# Altium integrated library ST Microcontroller 8-Bit.IntLib: 1326 symbols (part 14 of 45)
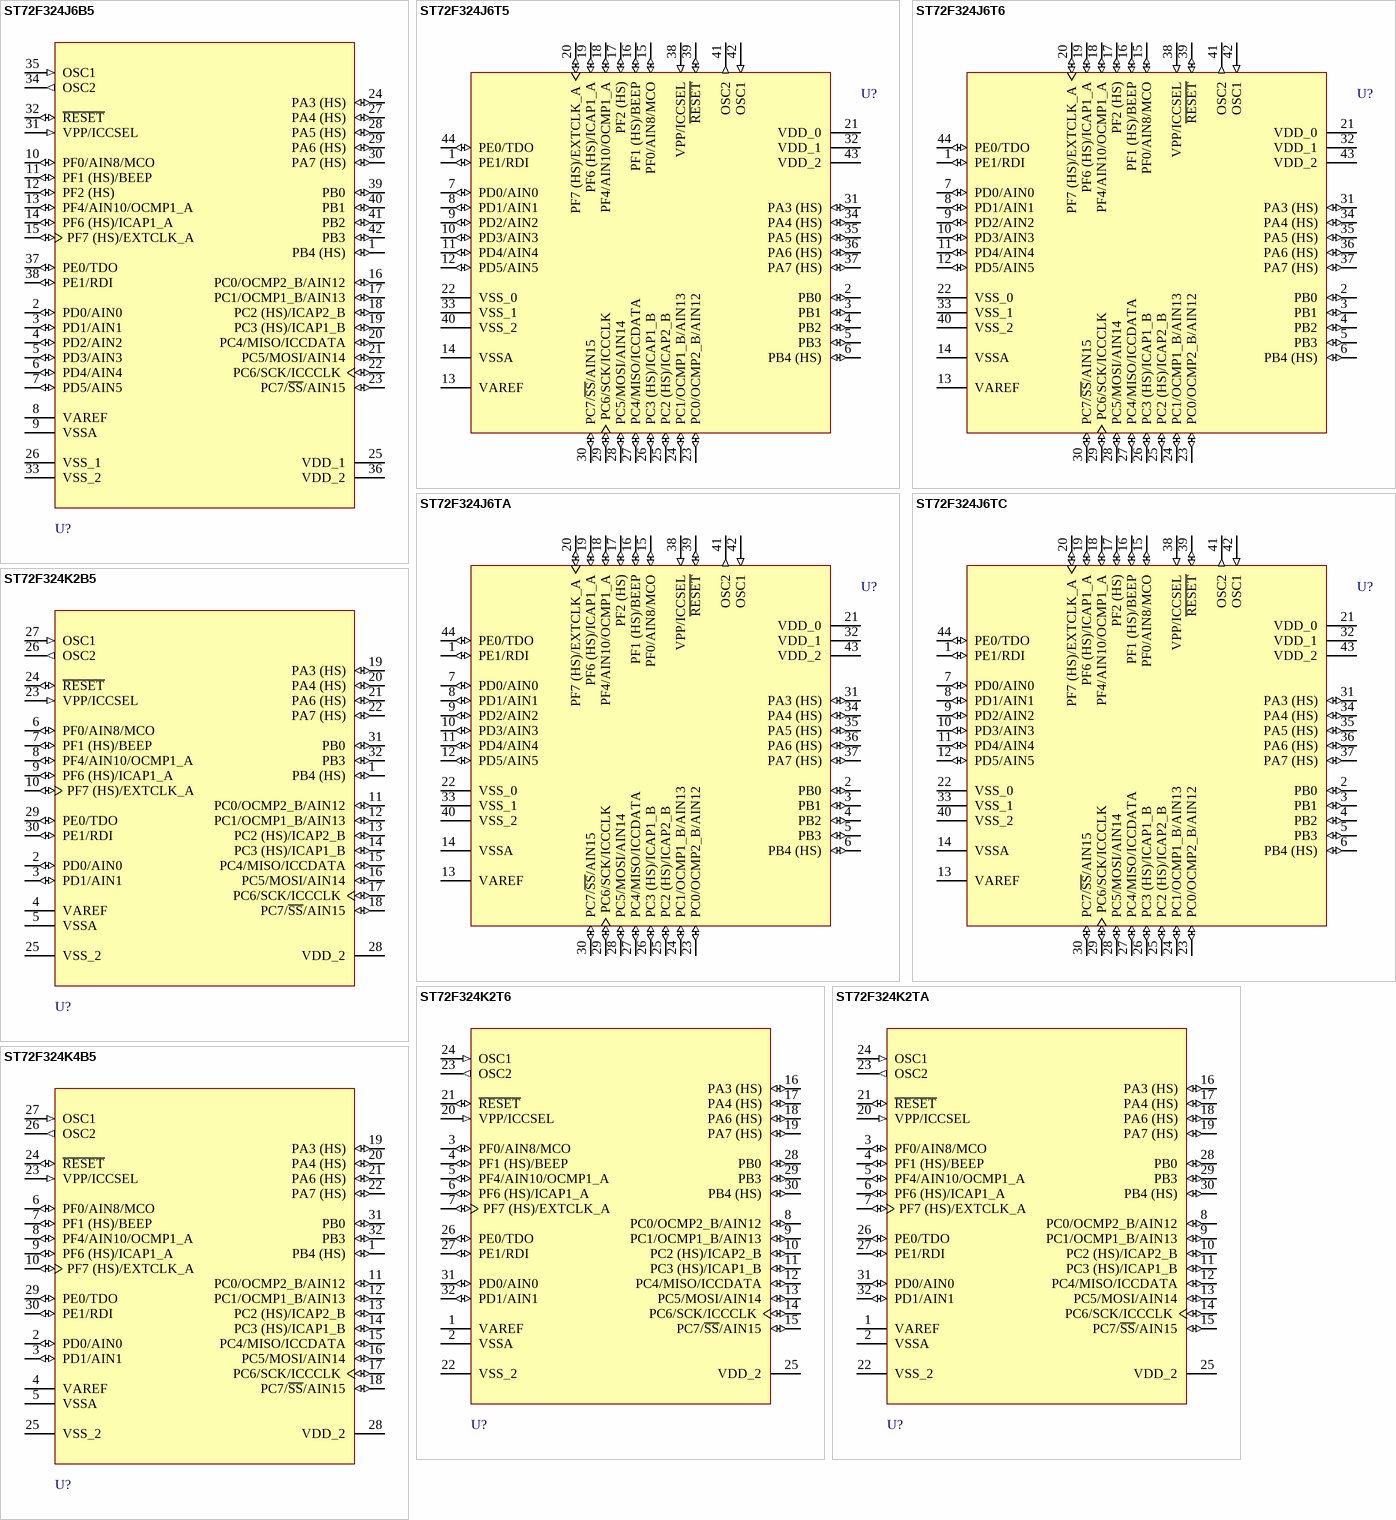
[diagram p180: symbols ST72F324J6B5 to ST72F324K4B5]

## ST72F324K2TA
designator U?
8-Bit 8k Flash MCU with Nested Interrupts, 384b RAM, 10-Bit ADC, Four Timers, SPI and SCI Interfaces, 32-Pin TQFP, Automotive; Note: Pins 3, 4, 16 and 28-30 are External Interrupt (EI) pins.; Published: 26-May-2004; LatestRevisionDate: 13-Apr-2006; LatestRevisionNote: IPC-7351 Footprint Added.; DatasheetVersion: rev1.9, Aug-2003; PackageVersion: Oct-1997; PackageReference: TQFP32; Publisher: Altium Limited; PackageDescription: 32-Pin Thin Quad Flat Pack 0.8 mm Pitch; ComponentLink1Description: Manufacturer Link; ComponentLink1URL: http://www.st.com/; ComponentLink2Description: Datasheet; ComponentLink2URL: http://www.st.com/stonline/products/literature/ds/8336/st72324.pdf
footprint TQFP32_N (Thin QFP, 32-Leads, Body 7x7mm, Pitch 0.8mm, IPC Medium Density)
footprint TQFP32_L (Thin QFP, 32-Leads, Body 7x7mm, Pitch 0.8mm, IPC High Density)
footprint TQFP32_M (Thin QFP, 32-Leads, Body 7x7mm, Pitch 0.8mm, IPC Low Density)
3D model ST72F324-TQFP32 (32-Pin Thin Quad Flat Pack 0.8 mm Pitch)
pins: 1 VAREF (power), 2 VSSA (power), 3 PF0/AIN8/MCO (io), 4 PF1 (HS)/BEEP (io), 5 PF4/AIN10/OCMP1_A (io), 6 PF6 (HS)/ICAP1_A (io), 7 PF7 (HS)/EXTCLK_A (io), 8 PC0/OCMP2_B/AIN12 (io), 9 PC1/OCMP1_B/AIN13 (io), 10 PC2 (HS)/ICAP2_B (io), 11 PC3 (HS)/ICAP1_B (io), 12 PC4/MISO/ICCDATA (io), 13 PC5/MOSI/AIN14 (io), 14 PC6/SCK/ICCCLK (io), 15 PC7/~{SS}/AIN15 (io), 16 PA3 (HS) (io), 17 PA4 (HS) (io), 18 PA6 (HS) (io), 19 PA7 (HS) (io), 20 VPP/ICCSEL (in), 21 ~{RESET} (io), 22 VSS_2 (power), 23 OSC2 (out), 24 OSC1 (in), 25 VDD_2 (power), 26 PE0/TDO (io), 27 PE1/RDI (io), 28 PB0 (io), 29 PB3 (io), 30 PB4 (HS) (io), 31 PD0/AIN0 (io), 32 PD1/AIN1 (io)

## ST72F324K4B5
designator U?
8-Bit 16k Flash MCU with Nested Interrupts, 512b RAM, 10-Bit ADC, Four Timers, SPI and SCI Interfaces, 32-Pin PDIP, Standard; Note: Pins 1, 6, 7, 19, 31 and 32 are External Interrupt (EI) pins.; Published: 26-May-2004; LatestRevisionDate: 06-Jun-2005; LatestRevisionNote: Stylized 3D Model Added.; DatasheetVersion: rev1.9, Aug-2003; PackageVersion: rev1.7, Oct-2001; PackageReference: PSDIP32; Publisher: Altium Limited; PackageDescription: DIP, Plastic Shrink; 32 Leads; Row Spacing 10.16 mm; Pitch 1.78 mm; ComponentLink1Description: Manufacturer Link; ComponentLink1URL: http://www.st.com/; ComponentLink2Description: Datasheet; ComponentLink2URL: http://www.st.com/stonline/products/literature/ds/8336/st72324.pdf
footprint PSDIP32 (DIP, Plastic Shrink; 32 Leads; Row Spacing 10.16 mm; Pitch 1.78 mm)
3D model PSDIP32 (DIP, Plastic Shrink; 32 Leads; Row Spacing 10.16 mm; Pitch 1.78 mm)
pins: 1 PB4 (HS) (io), 2 PD0/AIN0 (io), 3 PD1/AIN1 (io), 4 VAREF (power), 5 VSSA (power), 6 PF0/AIN8/MCO (io), 7 PF1 (HS)/BEEP (io), 8 PF4/AIN10/OCMP1_A (io), 9 PF6 (HS)/ICAP1_A (io), 10 PF7 (HS)/EXTCLK_A (io), 11 PC0/OCMP2_B/AIN12 (io), 12 PC1/OCMP1_B/AIN13 (io), 13 PC2 (HS)/ICAP2_B (io), 14 PC3 (HS)/ICAP1_B (io), 15 PC4/MISO/ICCDATA (io), 16 PC5/MOSI/AIN14 (io), 17 PC6/SCK/ICCCLK (io), 18 PC7/~{SS}/AIN15 (io), 19 PA3 (HS) (io), 20 PA4 (HS) (io), 21 PA6 (HS) (io), 22 PA7 (HS) (io), 23 VPP/ICCSEL (in), 24 ~{RESET} (io), 25 VSS_2 (power), 26 OSC2 (out), 27 OSC1 (in), 28 VDD_2 (power), 29 PE0/TDO (io), 30 PE1/RDI (io), 31 PB0 (io), 32 PB3 (io)

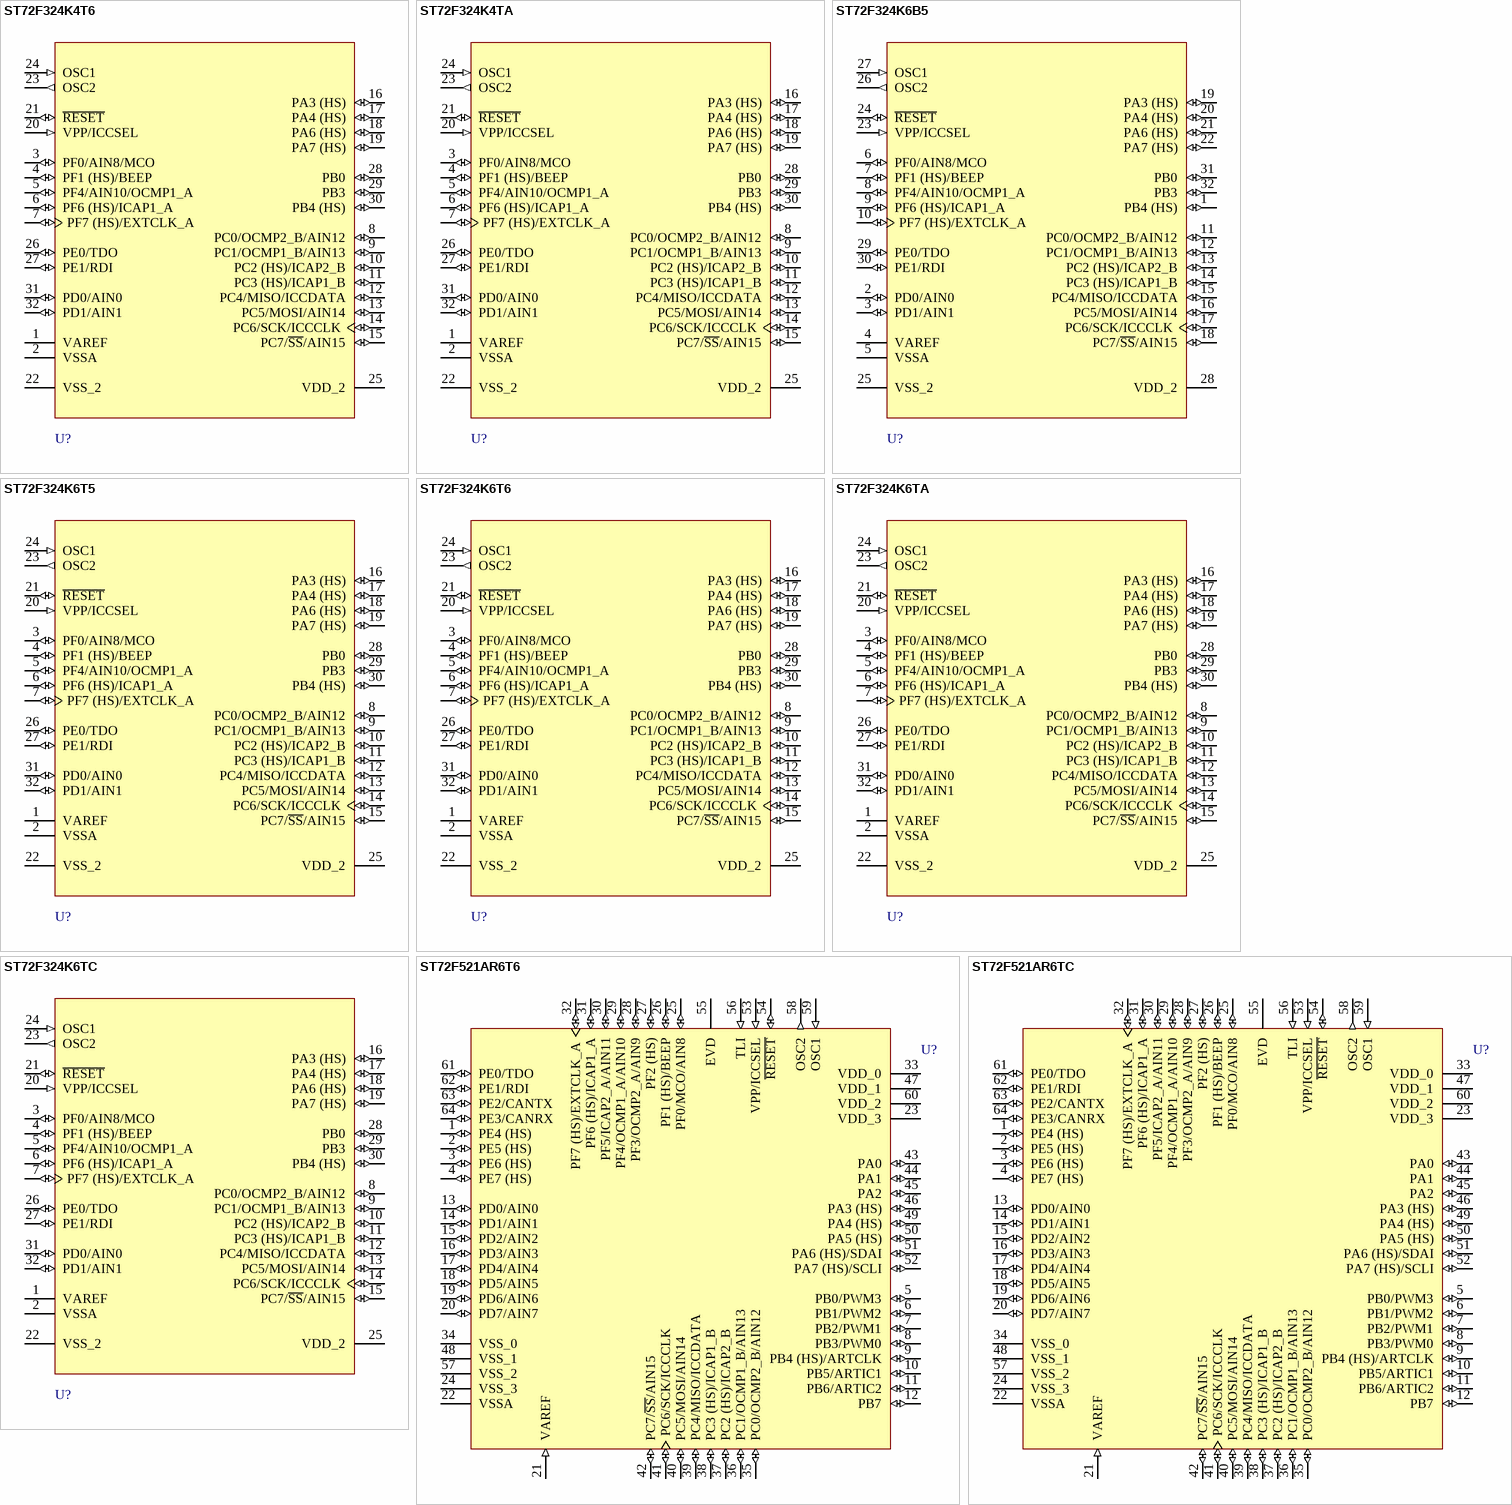
[diagram p41: symbols ST72F324K4T6 to ST72F521AR6TC]

## ST72F324K4T6
designator U?
8-Bit 16k Flash MCU with Nested Interrupts, 512b RAM, 10-Bit ADC, Four Timers, SPI and SCI Interfaces, 32-Pin TQFP, Standard; Note: Pins 3, 4, 16 and 28-30 are External Interrupt (EI) pins.; Published: 26-May-2004; LatestRevisionDate: 13-Apr-2006; LatestRevisionNote: IPC-7351 Footprint Added.; DatasheetVersion: rev1.9, Aug-2003; PackageVersion: Oct-1997; PackageReference: TQFP32; Publisher: Altium Limited; PackageDescription: 32-Pin Thin Quad Flat Pack 0.8 mm Pitch; ComponentLink1Description: Manufacturer Link; ComponentLink1URL: http://www.st.com/; ComponentLink2Description: Datasheet; ComponentLink2URL: http://www.st.com/stonline/products/literature/ds/8336/st72324.pdf
footprint TQFP32_N (Thin QFP, 32-Leads, Body 7x7mm, Pitch 0.8mm, IPC Medium Density)
footprint TQFP32_L (Thin QFP, 32-Leads, Body 7x7mm, Pitch 0.8mm, IPC High Density)
footprint TQFP32_M (Thin QFP, 32-Leads, Body 7x7mm, Pitch 0.8mm, IPC Low Density)
3D model ST72F324-TQFP32 (32-Pin Thin Quad Flat Pack 0.8 mm Pitch)
pins: 1 VAREF (power), 2 VSSA (power), 3 PF0/AIN8/MCO (io), 4 PF1 (HS)/BEEP (io), 5 PF4/AIN10/OCMP1_A (io), 6 PF6 (HS)/ICAP1_A (io), 7 PF7 (HS)/EXTCLK_A (io), 8 PC0/OCMP2_B/AIN12 (io), 9 PC1/OCMP1_B/AIN13 (io), 10 PC2 (HS)/ICAP2_B (io), 11 PC3 (HS)/ICAP1_B (io), 12 PC4/MISO/ICCDATA (io), 13 PC5/MOSI/AIN14 (io), 14 PC6/SCK/ICCCLK (io), 15 PC7/~{SS}/AIN15 (io), 16 PA3 (HS) (io), 17 PA4 (HS) (io), 18 PA6 (HS) (io), 19 PA7 (HS) (io), 20 VPP/ICCSEL (in), 21 ~{RESET} (io), 22 VSS_2 (power), 23 OSC2 (out), 24 OSC1 (in), 25 VDD_2 (power), 26 PE0/TDO (io), 27 PE1/RDI (io), 28 PB0 (io), 29 PB3 (io), 30 PB4 (HS) (io), 31 PD0/AIN0 (io), 32 PD1/AIN1 (io)

## ST72F324K4TA
designator U?
8-Bit 16k Flash MCU with Nested Interrupts, 512b RAM, 10-Bit ADC, Four Timers, SPI and SCI Interfaces, 32-Pin TQFP, Automotive; Note: Pins 3, 4, 16 and 28-30 are External Interrupt (EI) pins.; Published: 26-May-2004; LatestRevisionDate: 13-Apr-2006; LatestRevisionNote: IPC-7351 Footprint Added.; DatasheetVersion: rev1.9, Aug-2003; PackageVersion: Oct-1997; PackageReference: TQFP32; Publisher: Altium Limited; PackageDescription: 32-Pin Thin Quad Flat Pack 0.8 mm Pitch; ComponentLink1Description: Manufacturer Link; ComponentLink1URL: http://www.st.com/; ComponentLink2Description: Datasheet; ComponentLink2URL: http://www.st.com/stonline/products/literature/ds/8336/st72324.pdf
footprint TQFP32_N (Thin QFP, 32-Leads, Body 7x7mm, Pitch 0.8mm, IPC Medium Density)
footprint TQFP32_L (Thin QFP, 32-Leads, Body 7x7mm, Pitch 0.8mm, IPC High Density)
footprint TQFP32_M (Thin QFP, 32-Leads, Body 7x7mm, Pitch 0.8mm, IPC Low Density)
3D model ST72F324-TQFP32 (32-Pin Thin Quad Flat Pack 0.8 mm Pitch)
pins: 1 VAREF (power), 2 VSSA (power), 3 PF0/AIN8/MCO (io), 4 PF1 (HS)/BEEP (io), 5 PF4/AIN10/OCMP1_A (io), 6 PF6 (HS)/ICAP1_A (io), 7 PF7 (HS)/EXTCLK_A (io), 8 PC0/OCMP2_B/AIN12 (io), 9 PC1/OCMP1_B/AIN13 (io), 10 PC2 (HS)/ICAP2_B (io), 11 PC3 (HS)/ICAP1_B (io), 12 PC4/MISO/ICCDATA (io), 13 PC5/MOSI/AIN14 (io), 14 PC6/SCK/ICCCLK (io), 15 PC7/~{SS}/AIN15 (io), 16 PA3 (HS) (io), 17 PA4 (HS) (io), 18 PA6 (HS) (io), 19 PA7 (HS) (io), 20 VPP/ICCSEL (in), 21 ~{RESET} (io), 22 VSS_2 (power), 23 OSC2 (out), 24 OSC1 (in), 25 VDD_2 (power), 26 PE0/TDO (io), 27 PE1/RDI (io), 28 PB0 (io), 29 PB3 (io), 30 PB4 (HS) (io), 31 PD0/AIN0 (io), 32 PD1/AIN1 (io)

## ST72F324K6B5
designator U?
8-Bit 32k Flash MCU with Nested Interrupts, 1024b RAM, 10-Bit ADC, Four Timers, SPI and SCI Interfaces, 32-Pin PDIP, Standard; Note: Pins 1, 6, 7, 19, 31 and 32 are External Interrupt (EI) pins.; Published: 26-May-2004; LatestRevisionDate: 06-Jun-2005; LatestRevisionNote: Stylized 3D Model Added.; DatasheetVersion: rev1.9, Aug-2003; PackageVersion: rev1.7, Oct-2001; PackageReference: PSDIP32; Publisher: Altium Limited; PackageDescription: DIP, Plastic Shrink; 32 Leads; Row Spacing 10.16 mm; Pitch 1.78 mm; ComponentLink1Description: Manufacturer Link; ComponentLink1URL: http://www.st.com/; ComponentLink2Description: Datasheet; ComponentLink2URL: http://www.st.com/stonline/products/literature/ds/8336/st72324.pdf
footprint PSDIP32 (DIP, Plastic Shrink; 32 Leads; Row Spacing 10.16 mm; Pitch 1.78 mm)
3D model PSDIP32 (DIP, Plastic Shrink; 32 Leads; Row Spacing 10.16 mm; Pitch 1.78 mm)
pins: 1 PB4 (HS) (io), 2 PD0/AIN0 (io), 3 PD1/AIN1 (io), 4 VAREF (power), 5 VSSA (power), 6 PF0/AIN8/MCO (io), 7 PF1 (HS)/BEEP (io), 8 PF4/AIN10/OCMP1_A (io), 9 PF6 (HS)/ICAP1_A (io), 10 PF7 (HS)/EXTCLK_A (io), 11 PC0/OCMP2_B/AIN12 (io), 12 PC1/OCMP1_B/AIN13 (io), 13 PC2 (HS)/ICAP2_B (io), 14 PC3 (HS)/ICAP1_B (io), 15 PC4/MISO/ICCDATA (io), 16 PC5/MOSI/AIN14 (io), 17 PC6/SCK/ICCCLK (io), 18 PC7/~{SS}/AIN15 (io), 19 PA3 (HS) (io), 20 PA4 (HS) (io), 21 PA6 (HS) (io), 22 PA7 (HS) (io), 23 VPP/ICCSEL (in), 24 ~{RESET} (io), 25 VSS_2 (power), 26 OSC2 (out), 27 OSC1 (in), 28 VDD_2 (power), 29 PE0/TDO (io), 30 PE1/RDI (io), 31 PB0 (io), 32 PB3 (io)

## ST72F324K6T5
designator U?
8-Bit 32k Flash MCU with Nested Interrupts, 1024b RAM, 10-Bit ADC, Four Timers, SPI and SCI Interfaces, 32-Pin TQFP, Standard; Note: Pins 3, 4, 16 and 28-30 are External Interrupt (EI) pins.; Published: 26-May-2004; LatestRevisionDate: 13-Apr-2006; LatestRevisionNote: IPC-7351 Footprint Added.; DatasheetVersion: rev1.9, Aug-2003; PackageVersion: Oct-1997; PackageReference: TQFP32; Publisher: Altium Limited; PackageDescription: 32-Pin Thin Quad Flat Pack 0.8 mm Pitch; ComponentLink1Description: Manufacturer Link; ComponentLink1URL: http://www.st.com/; ComponentLink2Description: Datasheet; ComponentLink2URL: http://www.st.com/stonline/products/literature/ds/8336/st72324.pdf
footprint TQFP32_N (Thin QFP, 32-Leads, Body 7x7mm, Pitch 0.8mm, IPC Medium Density)
footprint TQFP32_L (Thin QFP, 32-Leads, Body 7x7mm, Pitch 0.8mm, IPC High Density)
footprint TQFP32_M (Thin QFP, 32-Leads, Body 7x7mm, Pitch 0.8mm, IPC Low Density)
3D model ST72F324-TQFP32 (32-Pin Thin Quad Flat Pack 0.8 mm Pitch)
pins: 1 VAREF (power), 2 VSSA (power), 3 PF0/AIN8/MCO (io), 4 PF1 (HS)/BEEP (io), 5 PF4/AIN10/OCMP1_A (io), 6 PF6 (HS)/ICAP1_A (io), 7 PF7 (HS)/EXTCLK_A (io), 8 PC0/OCMP2_B/AIN12 (io), 9 PC1/OCMP1_B/AIN13 (io), 10 PC2 (HS)/ICAP2_B (io), 11 PC3 (HS)/ICAP1_B (io), 12 PC4/MISO/ICCDATA (io), 13 PC5/MOSI/AIN14 (io), 14 PC6/SCK/ICCCLK (io), 15 PC7/~{SS}/AIN15 (io), 16 PA3 (HS) (io), 17 PA4 (HS) (io), 18 PA6 (HS) (io), 19 PA7 (HS) (io), 20 VPP/ICCSEL (in), 21 ~{RESET} (io), 22 VSS_2 (power), 23 OSC2 (out), 24 OSC1 (in), 25 VDD_2 (power), 26 PE0/TDO (io), 27 PE1/RDI (io), 28 PB0 (io), 29 PB3 (io), 30 PB4 (HS) (io), 31 PD0/AIN0 (io), 32 PD1/AIN1 (io)

## ST72F324K6T6
designator U?
8-Bit 32k Flash MCU with Nested Interrupts, 1024b RAM, 10-Bit ADC, Four Timers, SPI and SCI Interfaces, 32-Pin TQFP, Standard; Note: Pins 3, 4, 16 and 28-30 are External Interrupt (EI) pins.; Published: 26-May-2004; LatestRevisionDate: 13-Apr-2006; LatestRevisionNote: IPC-7351 Footprint Added.; DatasheetVersion: rev1.9, Aug-2003; PackageVersion: Oct-1997; PackageReference: TQFP32; Publisher: Altium Limited; PackageDescription: 32-Pin Thin Quad Flat Pack 0.8 mm Pitch; ComponentLink1Description: Manufacturer Link; ComponentLink1URL: http://www.st.com/; ComponentLink2Description: Datasheet; ComponentLink2URL: http://www.st.com/stonline/products/literature/ds/8336/st72324.pdf
footprint TQFP32_N (Thin QFP, 32-Leads, Body 7x7mm, Pitch 0.8mm, IPC Medium Density)
footprint TQFP32_L (Thin QFP, 32-Leads, Body 7x7mm, Pitch 0.8mm, IPC High Density)
footprint TQFP32_M (Thin QFP, 32-Leads, Body 7x7mm, Pitch 0.8mm, IPC Low Density)
3D model ST72F324-TQFP32 (32-Pin Thin Quad Flat Pack 0.8 mm Pitch)
pins: 1 VAREF (power), 2 VSSA (power), 3 PF0/AIN8/MCO (io), 4 PF1 (HS)/BEEP (io), 5 PF4/AIN10/OCMP1_A (io), 6 PF6 (HS)/ICAP1_A (io), 7 PF7 (HS)/EXTCLK_A (io), 8 PC0/OCMP2_B/AIN12 (io), 9 PC1/OCMP1_B/AIN13 (io), 10 PC2 (HS)/ICAP2_B (io), 11 PC3 (HS)/ICAP1_B (io), 12 PC4/MISO/ICCDATA (io), 13 PC5/MOSI/AIN14 (io), 14 PC6/SCK/ICCCLK (io), 15 PC7/~{SS}/AIN15 (io), 16 PA3 (HS) (io), 17 PA4 (HS) (io), 18 PA6 (HS) (io), 19 PA7 (HS) (io), 20 VPP/ICCSEL (in), 21 ~{RESET} (io), 22 VSS_2 (power), 23 OSC2 (out), 24 OSC1 (in), 25 VDD_2 (power), 26 PE0/TDO (io), 27 PE1/RDI (io), 28 PB0 (io), 29 PB3 (io), 30 PB4 (HS) (io), 31 PD0/AIN0 (io), 32 PD1/AIN1 (io)

## ST72F324K6TA
designator U?
8-Bit 32k Flash MCU with Nested Interrupts, 1024b RAM, 10-Bit ADC, Four Timers, SPI and SCI Interfaces, 32-Pin TQFP, Automotive; Note: Pins 3, 4, 16 and 28-30 are External Interrupt (EI) pins.; Published: 26-May-2004; LatestRevisionDate: 13-Apr-2006; LatestRevisionNote: IPC-7351 Footprint Added.; DatasheetVersion: rev1.9, Aug-2003; PackageVersion: Oct-1997; PackageReference: TQFP32; Publisher: Altium Limited; PackageDescription: 32-Pin Thin Quad Flat Pack 0.8 mm Pitch; ComponentLink1Description: Manufacturer Link; ComponentLink1URL: http://www.st.com/; ComponentLink2Description: Datasheet; ComponentLink2URL: http://www.st.com/stonline/products/literature/ds/8336/st72324.pdf
footprint TQFP32_N (Thin QFP, 32-Leads, Body 7x7mm, Pitch 0.8mm, IPC Medium Density)
footprint TQFP32_L (Thin QFP, 32-Leads, Body 7x7mm, Pitch 0.8mm, IPC High Density)
footprint TQFP32_M (Thin QFP, 32-Leads, Body 7x7mm, Pitch 0.8mm, IPC Low Density)
3D model ST72F324-TQFP32 (32-Pin Thin Quad Flat Pack 0.8 mm Pitch)
pins: 1 VAREF (power), 2 VSSA (power), 3 PF0/AIN8/MCO (io), 4 PF1 (HS)/BEEP (io), 5 PF4/AIN10/OCMP1_A (io), 6 PF6 (HS)/ICAP1_A (io), 7 PF7 (HS)/EXTCLK_A (io), 8 PC0/OCMP2_B/AIN12 (io), 9 PC1/OCMP1_B/AIN13 (io), 10 PC2 (HS)/ICAP2_B (io), 11 PC3 (HS)/ICAP1_B (io), 12 PC4/MISO/ICCDATA (io), 13 PC5/MOSI/AIN14 (io), 14 PC6/SCK/ICCCLK (io), 15 PC7/~{SS}/AIN15 (io), 16 PA3 (HS) (io), 17 PA4 (HS) (io), 18 PA6 (HS) (io), 19 PA7 (HS) (io), 20 VPP/ICCSEL (in), 21 ~{RESET} (io), 22 VSS_2 (power), 23 OSC2 (out), 24 OSC1 (in), 25 VDD_2 (power), 26 PE0/TDO (io), 27 PE1/RDI (io), 28 PB0 (io), 29 PB3 (io), 30 PB4 (HS) (io), 31 PD0/AIN0 (io), 32 PD1/AIN1 (io)

## ST72F324K6TC
designator U?
8-Bit 32k Flash MCU with Nested Interrupts, 1024b RAM, 10-Bit ADC, Four Timers, SPI and SCI Interfaces, 32-Pin TQFP, Automotive; Note: Pins 3, 4, 16 and 28-30 are External Interrupt (EI) pins.; Published: 26-May-2004; LatestRevisionDate: 13-Apr-2006; LatestRevisionNote: IPC-7351 Footprint Added.; DatasheetVersion: rev1.9, Aug-2003; PackageVersion: Oct-1997; PackageReference: TQFP32; Publisher: Altium Limited; PackageDescription: 32-Pin Thin Quad Flat Pack 0.8 mm Pitch; ComponentLink1Description: Manufacturer Link; ComponentLink1URL: http://www.st.com/; ComponentLink2Description: Datasheet; ComponentLink2URL: http://www.st.com/stonline/products/literature/ds/8336/st72324.pdf
footprint TQFP32_N (Thin QFP, 32-Leads, Body 7x7mm, Pitch 0.8mm, IPC Medium Density)
footprint TQFP32_L (Thin QFP, 32-Leads, Body 7x7mm, Pitch 0.8mm, IPC High Density)
footprint TQFP32_M (Thin QFP, 32-Leads, Body 7x7mm, Pitch 0.8mm, IPC Low Density)
3D model ST72F324-TQFP32 (32-Pin Thin Quad Flat Pack 0.8 mm Pitch)
pins: 1 VAREF (power), 2 VSSA (power), 3 PF0/AIN8/MCO (io), 4 PF1 (HS)/BEEP (io), 5 PF4/AIN10/OCMP1_A (io), 6 PF6 (HS)/ICAP1_A (io), 7 PF7 (HS)/EXTCLK_A (io), 8 PC0/OCMP2_B/AIN12 (io), 9 PC1/OCMP1_B/AIN13 (io), 10 PC2 (HS)/ICAP2_B (io), 11 PC3 (HS)/ICAP1_B (io), 12 PC4/MISO/ICCDATA (io), 13 PC5/MOSI/AIN14 (io), 14 PC6/SCK/ICCCLK (io), 15 PC7/~{SS}/AIN15 (io), 16 PA3 (HS) (io), 17 PA4 (HS) (io), 18 PA6 (HS) (io), 19 PA7 (HS) (io), 20 VPP/ICCSEL (in), 21 ~{RESET} (io), 22 VSS_2 (power), 23 OSC2 (out), 24 OSC1 (in), 25 VDD_2 (power), 26 PE0/TDO (io), 27 PE1/RDI (io), 28 PB0 (io), 29 PB3 (io), 30 PB4 (HS) (io), 31 PD0/AIN0 (io), 32 PD1/AIN1 (io)

## ST72F521AR6T6
designator U?
8-Bit 32k FLASH MCU with Nested Interrupts, 1024b RAM, 10-Bit ADC, Five Timers, SPI, SCI, I²C and CAN Interfaces, 64-Pin TQFP, Standard; Note: Pins 5-12, 25-27 and 43-46 are External Interrupt (EI) pins.; Published: 26-May-2004; LatestRevisionDate: 13-Apr-2006; LatestRevisionNote: IPC-7351 Footprint Added.; DatasheetVersion: rev1.9, Aug-2003; PackageVersion: Jun-2003; PackageReference: TQFP64; Publisher: Altium Limited; PackageDescription: 64-Pin Thin Quad Flat Pack 0.5 mm Pitch; Code_JEDEC: MS-026; ComponentLink1Description: Manufacturer Link; ComponentLink1URL: http://www.st.com/; ComponentLink2Description: Datasheet; ComponentLink2URL: http://www.st.com/stonline/products/literature/ds/7601/st72521b.pdf
footprint TQFP64_N (Thin QFP, 64-Leads, Body 10x10mm, Pitch 0.5mm, IPC Medium Density)
footprint TQFP64_L (Thin QFP, 64-Leads, Body 10x10mm, Pitch 0.5mm, IPC High Density)
footprint TQFP64_M (Thin QFP, 64-Leads, Body 10x10mm, Pitch 0.5mm, IPC Low Density)
3D model ST72F521-TQFP64 (64-Pin Thin Quad Flat Pack 0.5 mm Pitch)
pins: 1 PE4 (HS) (io), 2 PE5 (HS) (io), 3 PE6 (HS) (io), 4 PE7 (HS) (io), 5 PB0/PWM3 (io), 6 PB1/PWM2 (io), 7 PB2/PWM1 (io), 8 PB3/PWM0 (io), 9 PB4 (HS)/ARTCLK (io), 10 PB5/ARTIC1 (io), 11 PB6/ARTIC2 (io), 12 PB7 (io), 13 PD0/AIN0 (io), 14 PD1/AIN1 (io), 15 PD2/AIN2 (io), 16 PD3/AIN3 (io), 17 PD4/AIN4 (io), 18 PD5/AIN5 (io), 19 PD6/AIN6 (io), 20 PD7/AIN7 (io), 21 VAREF (in), 22 VSSA (power), 23 VDD_3 (power), 24 VSS_3 (power), 25 PF0/MCO/AIN8 (io), 26 PF1 (HS)/BEEP (io), 27 PF2 (HS) (io), 28 PF3/OCMP2_A/AIN9 (io), 29 PF4/OCMP1_A/AIN10 (io), 30 PF5/ICAP2_A/AIN11 (io), 31 PF6 (HS)/ICAP1_A (io), 32 PF7 (HS)/EXTCLK_A (io), 33 VDD_0 (power), 34 VSS_0 (power), 35 PC0/OCMP2_B/AIN12 (io), 36 PC1/OCMP1_B/AIN13 (io), 37 PC2 (HS)/ICAP2_B (io), 38 PC3 (HS)/ICAP1_B (io), 39 PC4/MISO/ICCDATA (io), 40 PC5/MOSI/AIN14 (io), 41 PC6/SCK/ICCCLK (io), 42 PC7/~{SS}/AIN15 (io), 43 PA0 (io), 44 PA1 (io), 45 PA2 (io), 46 PA3 (HS) (io), 47 VDD_1 (power), 48 VSS_1 (power), 49 PA4 (HS) (io), 50 PA5 (HS) (io), 51 PA6 (HS)/SDAI (io), 52 PA7 (HS)/SCLI (io), 53 VPP/ICCSEL (in), 54 ~{RESET} (io), 55 EVD, 56 TLI (in), 57 VSS_2 (power), 58 OSC2 (out), 59 OSC1 (in), 60 VDD_2 (power), 61 PE0/TDO (io), 62 PE1/RDI (io), 63 PE2/CANTX (io), 64 PE3/CANRX (io)

## ST72F521AR6TC
designator U?
8-Bit 32k FLASH MCU with Nested Interrupts, 1024b RAM, 10-Bit ADC, Five Timers, SPI, SCI, I²C and CAN Interfaces, 64-Pin TQFP, Automotive; Note: Pins 5-12, 25-27 and 43-46 are External Interrupt (EI) pins.; Published: 26-May-2004; LatestRevisionDate: 13-Apr-2006; LatestRevisionNote: IPC-7351 Footprint Added.; DatasheetVersion: rev1.9, Aug-2003; PackageVersion: Jun-2003; PackageReference: TQFP64; Publisher: Altium Limited; PackageDescription: 64-Pin Thin Quad Flat Pack 0.5 mm Pitch; Code_JEDEC: MS-026; ComponentLink1Description: Manufacturer Link; ComponentLink1URL: http://www.st.com/; ComponentLink2Description: Datasheet; ComponentLink2URL: http://www.st.com/stonline/products/literature/ds/7601/st72521b.pdf
footprint TQFP64_N (Thin QFP, 64-Leads, Body 10x10mm, Pitch 0.5mm, IPC Medium Density)
footprint TQFP64_L (Thin QFP, 64-Leads, Body 10x10mm, Pitch 0.5mm, IPC High Density)
footprint TQFP64_M (Thin QFP, 64-Leads, Body 10x10mm, Pitch 0.5mm, IPC Low Density)
3D model ST72F521-TQFP64 (64-Pin Thin Quad Flat Pack 0.5 mm Pitch)
pins: 1 PE4 (HS) (io), 2 PE5 (HS) (io), 3 PE6 (HS) (io), 4 PE7 (HS) (io), 5 PB0/PWM3 (io), 6 PB1/PWM2 (io), 7 PB2/PWM1 (io), 8 PB3/PWM0 (io), 9 PB4 (HS)/ARTCLK (io), 10 PB5/ARTIC1 (io), 11 PB6/ARTIC2 (io), 12 PB7 (io), 13 PD0/AIN0 (io), 14 PD1/AIN1 (io), 15 PD2/AIN2 (io), 16 PD3/AIN3 (io), 17 PD4/AIN4 (io), 18 PD5/AIN5 (io), 19 PD6/AIN6 (io), 20 PD7/AIN7 (io), 21 VAREF (in), 22 VSSA (power), 23 VDD_3 (power), 24 VSS_3 (power), 25 PF0/MCO/AIN8 (io), 26 PF1 (HS)/BEEP (io), 27 PF2 (HS) (io), 28 PF3/OCMP2_A/AIN9 (io), 29 PF4/OCMP1_A/AIN10 (io), 30 PF5/ICAP2_A/AIN11 (io), 31 PF6 (HS)/ICAP1_A (io), 32 PF7 (HS)/EXTCLK_A (io), 33 VDD_0 (power), 34 VSS_0 (power), 35 PC0/OCMP2_B/AIN12 (io), 36 PC1/OCMP1_B/AIN13 (io), 37 PC2 (HS)/ICAP2_B (io), 38 PC3 (HS)/ICAP1_B (io), 39 PC4/MISO/ICCDATA (io), 40 PC5/MOSI/AIN14 (io), 41 PC6/SCK/ICCCLK (io), 42 PC7/~{SS}/AIN15 (io), 43 PA0 (io), 44 PA1 (io), 45 PA2 (io), 46 PA3 (HS) (io), 47 VDD_1 (power), 48 VSS_1 (power), 49 PA4 (HS) (io), 50 PA5 (HS) (io), 51 PA6 (HS)/SDAI (io), 52 PA7 (HS)/SCLI (io), 53 VPP/ICCSEL (in), 54 ~{RESET} (io), 55 EVD, 56 TLI (in), 57 VSS_2 (power), 58 OSC2 (out), 59 OSC1 (in), 60 VDD_2 (power), 61 PE0/TDO (io), 62 PE1/RDI (io), 63 PE2/CANTX (io), 64 PE3/CANRX (io)

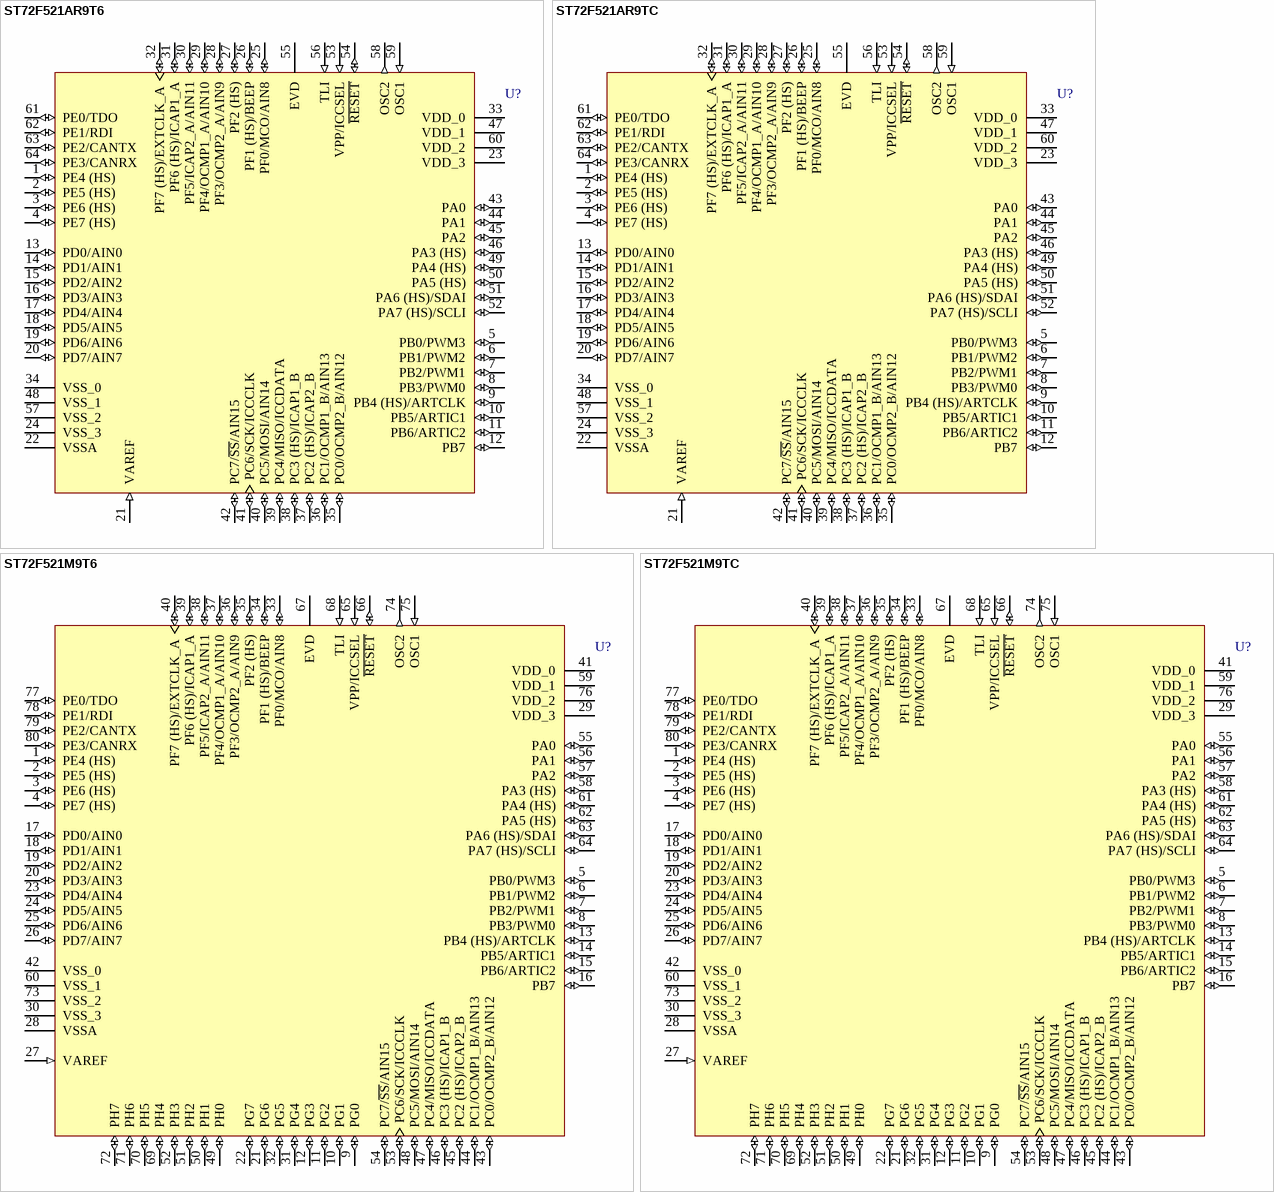
[diagram p42: symbols ST72F521AR9T6 to ST72F521M9TC]

## ST72F521AR9T6
designator U?
8-Bit 60k FLASH MCU with Nested Interrupts, 2048b RAM, 10-Bit ADC, Five Timers, SPI, SCI, I²C and CAN Interfaces, 64-Pin TQFP, Standard; Note: Pins 5-12, 25-27 and 43-46 are External Interrupt (EI) pins.; Published: 26-May-2004; LatestRevisionDate: 13-Apr-2006; LatestRevisionNote: IPC-7351 Footprint Added.; DatasheetVersion: rev1.9, Aug-2003; PackageVersion: Jun-2003; PackageReference: TQFP64; Publisher: Altium Limited; PackageDescription: 64-Pin Thin Quad Flat Pack 0.5 mm Pitch; Code_JEDEC: MS-026; ComponentLink1Description: Manufacturer Link; ComponentLink1URL: http://www.st.com/; ComponentLink2Description: Datasheet; ComponentLink2URL: http://www.st.com/stonline/products/literature/ds/7601/st72521b.pdf
footprint TQFP64_N (Thin QFP, 64-Leads, Body 10x10mm, Pitch 0.5mm, IPC Medium Density)
footprint TQFP64_L (Thin QFP, 64-Leads, Body 10x10mm, Pitch 0.5mm, IPC High Density)
footprint TQFP64_M (Thin QFP, 64-Leads, Body 10x10mm, Pitch 0.5mm, IPC Low Density)
3D model ST72F521-TQFP64 (64-Pin Thin Quad Flat Pack 0.5 mm Pitch)
pins: 1 PE4 (HS) (io), 2 PE5 (HS) (io), 3 PE6 (HS) (io), 4 PE7 (HS) (io), 5 PB0/PWM3 (io), 6 PB1/PWM2 (io), 7 PB2/PWM1 (io), 8 PB3/PWM0 (io), 9 PB4 (HS)/ARTCLK (io), 10 PB5/ARTIC1 (io), 11 PB6/ARTIC2 (io), 12 PB7 (io), 13 PD0/AIN0 (io), 14 PD1/AIN1 (io), 15 PD2/AIN2 (io), 16 PD3/AIN3 (io), 17 PD4/AIN4 (io), 18 PD5/AIN5 (io), 19 PD6/AIN6 (io), 20 PD7/AIN7 (io), 21 VAREF (in), 22 VSSA (power), 23 VDD_3 (power), 24 VSS_3 (power), 25 PF0/MCO/AIN8 (io), 26 PF1 (HS)/BEEP (io), 27 PF2 (HS) (io), 28 PF3/OCMP2_A/AIN9 (io), 29 PF4/OCMP1_A/AIN10 (io), 30 PF5/ICAP2_A/AIN11 (io), 31 PF6 (HS)/ICAP1_A (io), 32 PF7 (HS)/EXTCLK_A (io), 33 VDD_0 (power), 34 VSS_0 (power), 35 PC0/OCMP2_B/AIN12 (io), 36 PC1/OCMP1_B/AIN13 (io), 37 PC2 (HS)/ICAP2_B (io), 38 PC3 (HS)/ICAP1_B (io), 39 PC4/MISO/ICCDATA (io), 40 PC5/MOSI/AIN14 (io), 41 PC6/SCK/ICCCLK (io), 42 PC7/~{SS}/AIN15 (io), 43 PA0 (io), 44 PA1 (io), 45 PA2 (io), 46 PA3 (HS) (io), 47 VDD_1 (power), 48 VSS_1 (power), 49 PA4 (HS) (io), 50 PA5 (HS) (io), 51 PA6 (HS)/SDAI (io), 52 PA7 (HS)/SCLI (io), 53 VPP/ICCSEL (in), 54 ~{RESET} (io), 55 EVD, 56 TLI (in), 57 VSS_2 (power), 58 OSC2 (out), 59 OSC1 (in), 60 VDD_2 (power), 61 PE0/TDO (io), 62 PE1/RDI (io), 63 PE2/CANTX (io), 64 PE3/CANRX (io)

## ST72F521AR9TC
designator U?
8-Bit 60k FLASH MCU with Nested Interrupts, 2048b RAM, 10-Bit ADC, Five Timers, SPI, SCI, I²C and CAN Interfaces, 64-Pin TQFP, Automotive; Note: Pins 5-12, 25-27 and 43-46 are External Interrupt (EI) pins.; Published: 26-May-2004; LatestRevisionDate: 13-Apr-2006; LatestRevisionNote: IPC-7351 Footprint Added.; DatasheetVersion: rev1.9, Aug-2003; PackageVersion: Jun-2003; PackageReference: TQFP64; Publisher: Altium Limited; PackageDescription: 64-Pin Thin Quad Flat Pack 0.5 mm Pitch; Code_JEDEC: MS-026; ComponentLink1Description: Manufacturer Link; ComponentLink1URL: http://www.st.com/; ComponentLink2Description: Datasheet; ComponentLink2URL: http://www.st.com/stonline/products/literature/ds/7601/st72521b.pdf
footprint TQFP64_N (Thin QFP, 64-Leads, Body 10x10mm, Pitch 0.5mm, IPC Medium Density)
footprint TQFP64_L (Thin QFP, 64-Leads, Body 10x10mm, Pitch 0.5mm, IPC High Density)
footprint TQFP64_M (Thin QFP, 64-Leads, Body 10x10mm, Pitch 0.5mm, IPC Low Density)
3D model ST72F521-TQFP64 (64-Pin Thin Quad Flat Pack 0.5 mm Pitch)
pins: 1 PE4 (HS) (io), 2 PE5 (HS) (io), 3 PE6 (HS) (io), 4 PE7 (HS) (io), 5 PB0/PWM3 (io), 6 PB1/PWM2 (io), 7 PB2/PWM1 (io), 8 PB3/PWM0 (io), 9 PB4 (HS)/ARTCLK (io), 10 PB5/ARTIC1 (io), 11 PB6/ARTIC2 (io), 12 PB7 (io), 13 PD0/AIN0 (io), 14 PD1/AIN1 (io), 15 PD2/AIN2 (io), 16 PD3/AIN3 (io), 17 PD4/AIN4 (io), 18 PD5/AIN5 (io), 19 PD6/AIN6 (io), 20 PD7/AIN7 (io), 21 VAREF (in), 22 VSSA (power), 23 VDD_3 (power), 24 VSS_3 (power), 25 PF0/MCO/AIN8 (io), 26 PF1 (HS)/BEEP (io), 27 PF2 (HS) (io), 28 PF3/OCMP2_A/AIN9 (io), 29 PF4/OCMP1_A/AIN10 (io), 30 PF5/ICAP2_A/AIN11 (io), 31 PF6 (HS)/ICAP1_A (io), 32 PF7 (HS)/EXTCLK_A (io), 33 VDD_0 (power), 34 VSS_0 (power), 35 PC0/OCMP2_B/AIN12 (io), 36 PC1/OCMP1_B/AIN13 (io), 37 PC2 (HS)/ICAP2_B (io), 38 PC3 (HS)/ICAP1_B (io), 39 PC4/MISO/ICCDATA (io), 40 PC5/MOSI/AIN14 (io), 41 PC6/SCK/ICCCLK (io), 42 PC7/~{SS}/AIN15 (io), 43 PA0 (io), 44 PA1 (io), 45 PA2 (io), 46 PA3 (HS) (io), 47 VDD_1 (power), 48 VSS_1 (power), 49 PA4 (HS) (io), 50 PA5 (HS) (io), 51 PA6 (HS)/SDAI (io), 52 PA7 (HS)/SCLI (io), 53 VPP/ICCSEL (in), 54 ~{RESET} (io), 55 EVD, 56 TLI (in), 57 VSS_2 (power), 58 OSC2 (out), 59 OSC1 (in), 60 VDD_2 (power), 61 PE0/TDO (io), 62 PE1/RDI (io), 63 PE2/CANTX (io), 64 PE3/CANRX (io)

## ST72F521M9T6
designator U?
8-Bit 60k FLASH MCU with Nested Interrupts, 2048b RAM, 10-Bit ADC, Five Timers, SPI, SCI, I²C and CAN Interfaces, 80-Pin TQFP, Standard; Note: Pins 5-8, 13-16, 33-35 and 55-58 are External Interrupt (EI) pins.; Published: 26-May-2004; LatestRevisionDate: 13-Apr-2006; LatestRevisionNote: IPC-7351 Footprint Added.; DatasheetVersion: rev1.9, Aug-2003; PackageVersion: Jan-2001; PackageReference: TQFP80; Publisher: Altium Limited; PackageDescription: 80-Pin Thin Plastic Quad Flat Pack 0.65 mm Pitch; ComponentLink1Description: Manufacturer Link; ComponentLink1URL: http://www.st.com/; ComponentLink2Description: Datasheet; ComponentLink2URL: http://www.st.com/stonline/products/literature/ds/7601/st72521b.pdf
footprint TQFP80_N (Thin QFP, 80-Leads, Body 14 x 14mm, Pitch 0.65mm, IPC Medium Density)
footprint TQFP80_L (Thin QFP, 80-Leads, Body 14 x 14mm, Pitch 0.65mm, IPC High Density)
footprint TQFP80_M (Thin QFP, 80-Leads, Body 14 x 14mm, Pitch 0.65mm, IPC Low Density)
3D model ST72F521-TQFP80 (80-Pin Thin Plastic Quad Flat Pack 0.65 mm Pitch)
pins: 1 PE4 (HS) (io), 2 PE5 (HS) (io), 3 PE6 (HS) (io), 4 PE7 (HS) (io), 5 PB0/PWM3 (io), 6 PB1/PWM2 (io), 7 PB2/PWM1 (io), 8 PB3/PWM0 (io), 9 PG0 (io), 10 PG1 (io), 11 PG2 (io), 12 PG3 (io), 13 PB4 (HS)/ARTCLK (io), 14 PB5/ARTIC1 (io), 15 PB6/ARTIC2 (io), 16 PB7 (io), 17 PD0/AIN0 (io), 18 PD1/AIN1 (io), 19 PD2/AIN2 (io), 20 PD3/AIN3 (io), 21 PG6 (io), 22 PG7 (io), 23 PD4/AIN4 (io), 24 PD5/AIN5 (io), 25 PD6/AIN6 (io), 26 PD7/AIN7 (io), 27 VAREF (in), 28 VSSA (power), 29 VDD_3 (power), 30 VSS_3 (power), 31 PG4 (io), 32 PG5 (io), 33 PF0/MCO/AIN8 (io), 34 PF1 (HS)/BEEP (io), 35 PF2 (HS) (io), 36 PF3/OCMP2_A/AIN9 (io), 37 PF4/OCMP1_A/AIN10 (io), 38 PF5/ICAP2_A/AIN11 (io), 39 PF6 (HS)/ICAP1_A (io), 40 PF7 (HS)/EXTCLK_A (io), 41 VDD_0 (power), 42 VSS_0 (power), 43 PC0/OCMP2_B/AIN12 (io), 44 PC1/OCMP1_B/AIN13 (io), 45 PC2 (HS)/ICAP2_B (io), 46 PC3 (HS)/ICAP1_B (io), 47 PC4/MISO/ICCDATA (io), 48 PC5/MOSI/AIN14 (io), 49 PH0 (io), 50 PH1 (io), 51 PH2 (io), 52 PH3 (io), 53 PC6/SCK/ICCCLK (io), 54 PC7/~{SS}/AIN15 (io), 55 PA0 (io), 56 PA1 (io), 57 PA2 (io), 58 PA3 (HS) (io), 59 VDD_1 (power), 60 VSS_1 (power), 61 PA4 (HS) (io), 62 PA5 (HS) (io), 63 PA6 (HS)/SDAI (io), 64 PA7 (HS)/SCLI (io), 65 VPP/ICCSEL (in), 66 ~{RESET} (io), 67 EVD, 68 TLI (in), 69 PH4 (io), 70 PH5 (io), 71 PH6 (io), 72 PH7 (io), 73 VSS_2 (power), 74 OSC2 (out), 75 OSC1 (in), 76 VDD_2 (power), 77 PE0/TDO (io), 78 PE1/RDI (io), 79 PE2/CANTX (io), 80 PE3/CANRX (io)

## ST72F521M9TC
designator U?
8-Bit 60k FLASH MCU with Nested Interrupts, 2048b RAM, 10-Bit ADC, Five Timers, SPI, SCI, I²C and CAN Interfaces, 80-Pin TQFP, Automotive; Note: Pins 5-8, 13-16, 33-35 and 55-58 are External Interrupt (EI) pins.; Published: 26-May-2004; LatestRevisionDate: 13-Apr-2006; LatestRevisionNote: IPC-7351 Footprint Added.; DatasheetVersion: rev1.9, Aug-2003; PackageVersion: Jan-2001; PackageReference: TQFP80; Publisher: Altium Limited; PackageDescription: 80-Pin Thin Plastic Quad Flat Pack 0.65 mm Pitch; ComponentLink1Description: Manufacturer Link; ComponentLink1URL: http://www.st.com/; ComponentLink2Description: Datasheet; ComponentLink2URL: http://www.st.com/stonline/products/literature/ds/7601/st72521b.pdf
footprint TQFP80_N (Thin QFP, 80-Leads, Body 14 x 14mm, Pitch 0.65mm, IPC Medium Density)
footprint TQFP80_L (Thin QFP, 80-Leads, Body 14 x 14mm, Pitch 0.65mm, IPC High Density)
footprint TQFP80_M (Thin QFP, 80-Leads, Body 14 x 14mm, Pitch 0.65mm, IPC Low Density)
3D model ST72F521-TQFP80 (80-Pin Thin Plastic Quad Flat Pack 0.65 mm Pitch)
pins: 1 PE4 (HS) (io), 2 PE5 (HS) (io), 3 PE6 (HS) (io), 4 PE7 (HS) (io), 5 PB0/PWM3 (io), 6 PB1/PWM2 (io), 7 PB2/PWM1 (io), 8 PB3/PWM0 (io), 9 PG0 (io), 10 PG1 (io), 11 PG2 (io), 12 PG3 (io), 13 PB4 (HS)/ARTCLK (io), 14 PB5/ARTIC1 (io), 15 PB6/ARTIC2 (io), 16 PB7 (io), 17 PD0/AIN0 (io), 18 PD1/AIN1 (io), 19 PD2/AIN2 (io), 20 PD3/AIN3 (io), 21 PG6 (io), 22 PG7 (io), 23 PD4/AIN4 (io), 24 PD5/AIN5 (io), 25 PD6/AIN6 (io), 26 PD7/AIN7 (io), 27 VAREF (in), 28 VSSA (power), 29 VDD_3 (power), 30 VSS_3 (power), 31 PG4 (io), 32 PG5 (io), 33 PF0/MCO/AIN8 (io), 34 PF1 (HS)/BEEP (io), 35 PF2 (HS) (io), 36 PF3/OCMP2_A/AIN9 (io), 37 PF4/OCMP1_A/AIN10 (io), 38 PF5/ICAP2_A/AIN11 (io), 39 PF6 (HS)/ICAP1_A (io), 40 PF7 (HS)/EXTCLK_A (io), 41 VDD_0 (power), 42 VSS_0 (power), 43 PC0/OCMP2_B/AIN12 (io), 44 PC1/OCMP1_B/AIN13 (io), 45 PC2 (HS)/ICAP2_B (io), 46 PC3 (HS)/ICAP1_B (io), 47 PC4/MISO/ICCDATA (io), 48 PC5/MOSI/AIN14 (io), 49 PH0 (io), 50 PH1 (io), 51 PH2 (io), 52 PH3 (io), 53 PC6/SCK/ICCCLK (io), 54 PC7/~{SS}/AIN15 (io), 55 PA0 (io), 56 PA1 (io), 57 PA2 (io), 58 PA3 (HS) (io), 59 VDD_1 (power), 60 VSS_1 (power), 61 PA4 (HS) (io), 62 PA5 (HS) (io), 63 PA6 (HS)/SDAI (io), 64 PA7 (HS)/SCLI (io), 65 VPP/ICCSEL (in), 66 ~{RESET} (io), 67 EVD, 68 TLI (in), 69 PH4 (io), 70 PH5 (io), 71 PH6 (io), 72 PH7 (io), 73 VSS_2 (power), 74 OSC2 (out), 75 OSC1 (in), 76 VDD_2 (power), 77 PE0/TDO (io), 78 PE1/RDI (io), 79 PE2/CANTX (io), 80 PE3/CANRX (io)

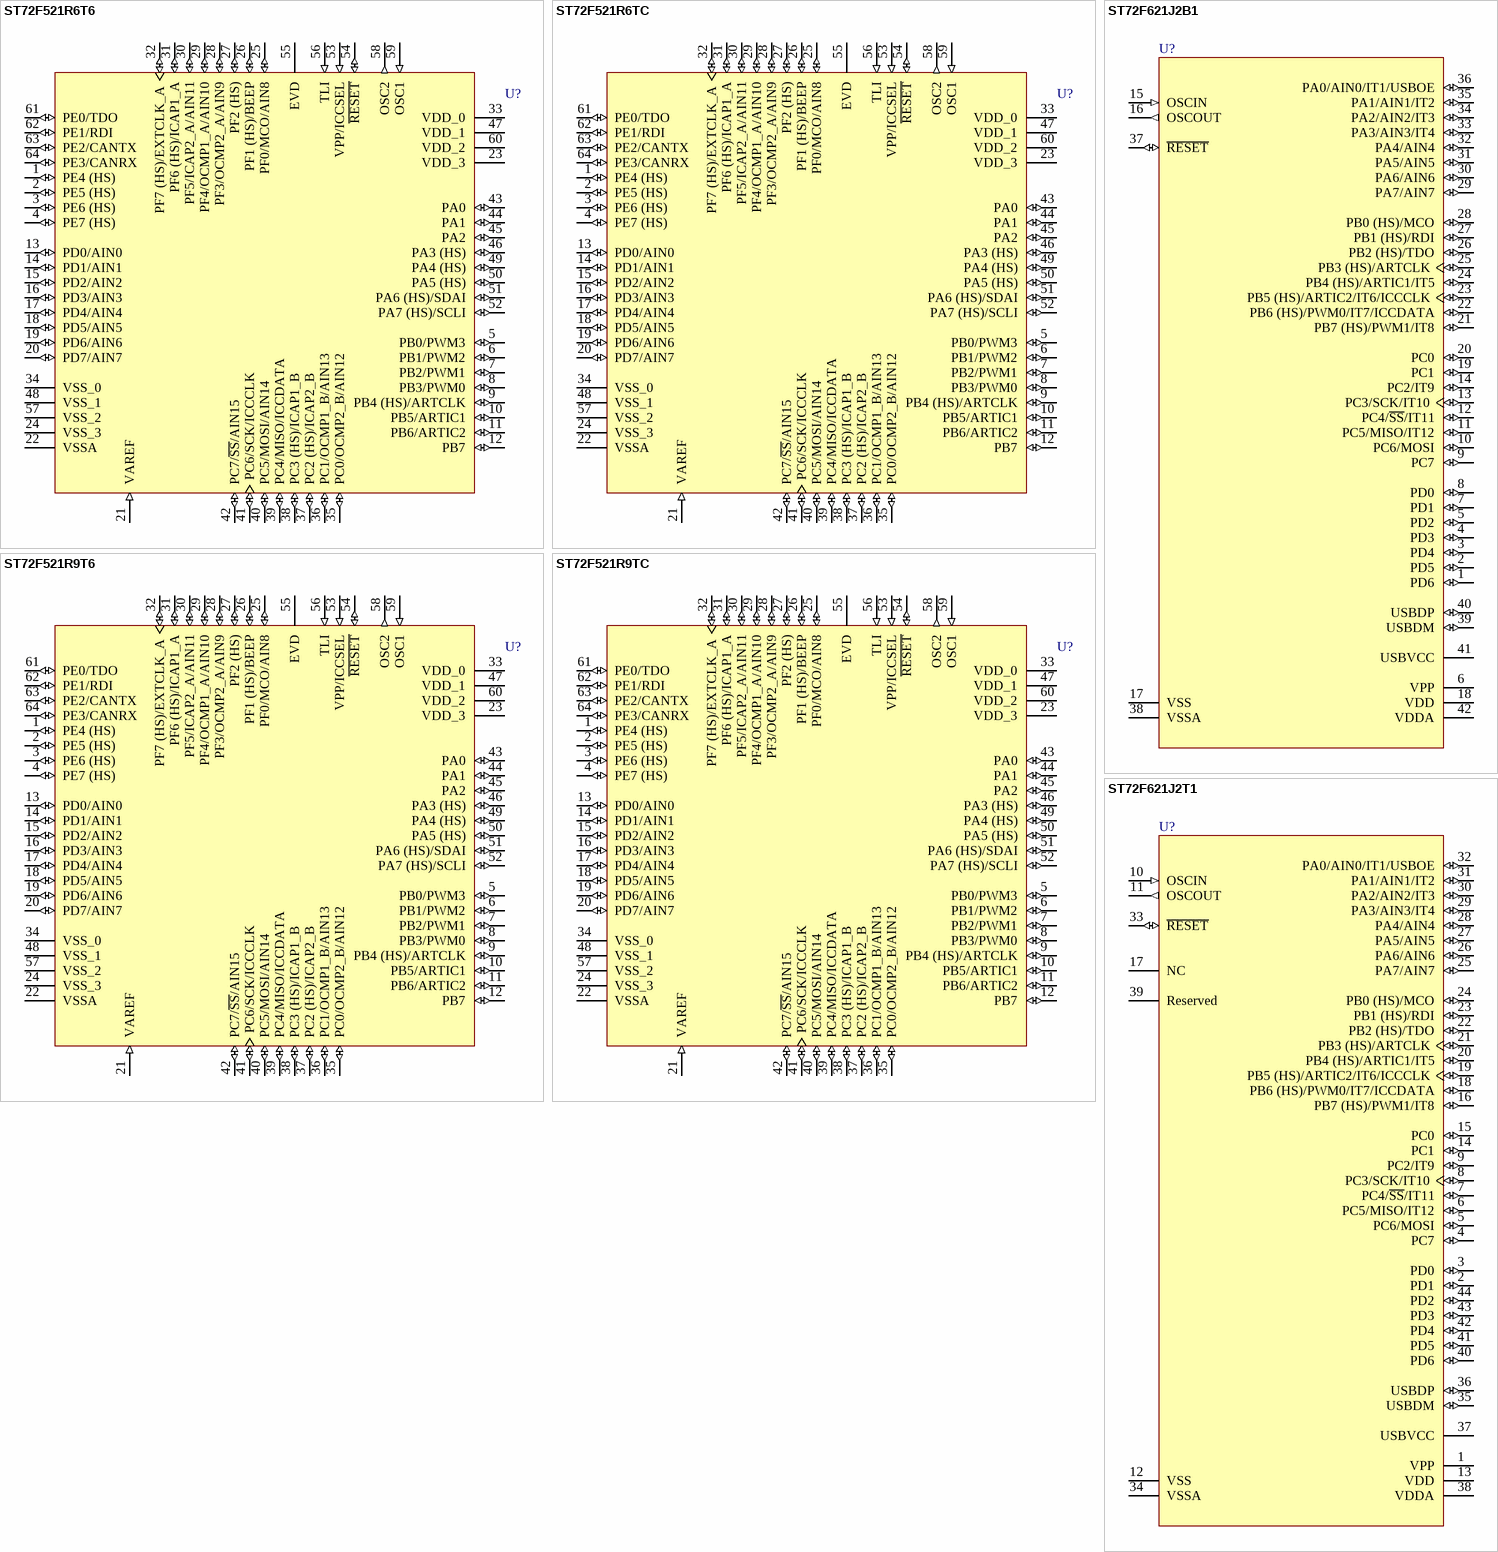
[diagram p43: symbols ST72F521R6T6 to ST72F621J2T1]

## ST72F521R6T6
designator U?
8-Bit 32k FLASH MCU with Nested Interrupts, 1024b RAM, 10-Bit ADC, Five Timers, SPI, SCI, I²C and CAN Interfaces, 64-Pin TQFP, Standard; Note: Pins 5-12, 25-27 and 43-46 are External Interrupt (EI) pins.; Published: 26-May-2004; LatestRevisionDate: 13-Apr-2006; LatestRevisionNote: IPC-7351 Footprint Added.; DatasheetVersion: rev1.9, Aug-2003; PackageVersion: rev2.4, Jan-2002; PackageReference: TQFP64-0.8; Publisher: Altium Limited; PackageDescription: 64-Pin Thin Quad Flat Pack 0.8 mm Pitch; ComponentLink1Description: Manufacturer Link; ComponentLink1URL: http://www.st.com/; ComponentLink2Description: Datasheet; ComponentLink2URL: http://www.st.com/stonline/products/literature/ds/7601/st72521b.pdf
footprint TQFP64-0.8_N (Thin QFP, 64-Leads, Body 14x14mm, Pitch 0.8mm, IPC Medium Density)
footprint TQFP64-0.8_L (Thin QFP, 64-Leads, Body 14x14mm, Pitch 0.8mm, IPC High Density)
footprint TQFP64-0.8_M (Thin QFP, 64-Leads, Body 14x14mm, Pitch 0.8mm, IPC Low Density)
3D model ST72F521-TQFP64-0_8 (64-Pin Thin Quad Flat Pack 0.8 mm Pitch)
pins: 1 PE4 (HS) (io), 2 PE5 (HS) (io), 3 PE6 (HS) (io), 4 PE7 (HS) (io), 5 PB0/PWM3 (io), 6 PB1/PWM2 (io), 7 PB2/PWM1 (io), 8 PB3/PWM0 (io), 9 PB4 (HS)/ARTCLK (io), 10 PB5/ARTIC1 (io), 11 PB6/ARTIC2 (io), 12 PB7 (io), 13 PD0/AIN0 (io), 14 PD1/AIN1 (io), 15 PD2/AIN2 (io), 16 PD3/AIN3 (io), 17 PD4/AIN4 (io), 18 PD5/AIN5 (io), 19 PD6/AIN6 (io), 20 PD7/AIN7 (io), 21 VAREF (in), 22 VSSA (power), 23 VDD_3 (power), 24 VSS_3 (power), 25 PF0/MCO/AIN8 (io), 26 PF1 (HS)/BEEP (io), 27 PF2 (HS) (io), 28 PF3/OCMP2_A/AIN9 (io), 29 PF4/OCMP1_A/AIN10 (io), 30 PF5/ICAP2_A/AIN11 (io), 31 PF6 (HS)/ICAP1_A (io), 32 PF7 (HS)/EXTCLK_A (io), 33 VDD_0 (power), 34 VSS_0 (power), 35 PC0/OCMP2_B/AIN12 (io), 36 PC1/OCMP1_B/AIN13 (io), 37 PC2 (HS)/ICAP2_B (io), 38 PC3 (HS)/ICAP1_B (io), 39 PC4/MISO/ICCDATA (io), 40 PC5/MOSI/AIN14 (io), 41 PC6/SCK/ICCCLK (io), 42 PC7/~{SS}/AIN15 (io), 43 PA0 (io), 44 PA1 (io), 45 PA2 (io), 46 PA3 (HS) (io), 47 VDD_1 (power), 48 VSS_1 (power), 49 PA4 (HS) (io), 50 PA5 (HS) (io), 51 PA6 (HS)/SDAI (io), 52 PA7 (HS)/SCLI (io), 53 VPP/ICCSEL (in), 54 ~{RESET} (io), 55 EVD, 56 TLI (in), 57 VSS_2 (power), 58 OSC2 (out), 59 OSC1 (in), 60 VDD_2 (power), 61 PE0/TDO (io), 62 PE1/RDI (io), 63 PE2/CANTX (io), 64 PE3/CANRX (io)

## ST72F521R6TC
designator U?
8-Bit 32k FLASH MCU with Nested Interrupts, 1024b RAM, 10-Bit ADC, Five Timers, SPI, SCI, I²C and CAN Interfaces, 64-Pin TQFP, Automotive; Note: Pins 5-12, 25-27 and 43-46 are External Interrupt (EI) pins.; Published: 26-May-2004; LatestRevisionDate: 13-Apr-2006; LatestRevisionNote: IPC-7351 Footprint Added.; DatasheetVersion: rev1.9, Aug-2003; PackageVersion: rev2.4, Jan-2002; PackageReference: TQFP64-0.8; Publisher: Altium Limited; PackageDescription: 64-Pin Thin Quad Flat Pack 0.8 mm Pitch; ComponentLink1Description: Manufacturer Link; ComponentLink1URL: http://www.st.com/; ComponentLink2Description: Datasheet; ComponentLink2URL: http://www.st.com/stonline/products/literature/ds/7601/st72521b.pdf
footprint TQFP64-0.8_N (Thin QFP, 64-Leads, Body 14x14mm, Pitch 0.8mm, IPC Medium Density)
footprint TQFP64-0.8_L (Thin QFP, 64-Leads, Body 14x14mm, Pitch 0.8mm, IPC High Density)
footprint TQFP64-0.8_M (Thin QFP, 64-Leads, Body 14x14mm, Pitch 0.8mm, IPC Low Density)
3D model ST72F521-TQFP64-0_8 (64-Pin Thin Quad Flat Pack 0.8 mm Pitch)
pins: 1 PE4 (HS) (io), 2 PE5 (HS) (io), 3 PE6 (HS) (io), 4 PE7 (HS) (io), 5 PB0/PWM3 (io), 6 PB1/PWM2 (io), 7 PB2/PWM1 (io), 8 PB3/PWM0 (io), 9 PB4 (HS)/ARTCLK (io), 10 PB5/ARTIC1 (io), 11 PB6/ARTIC2 (io), 12 PB7 (io), 13 PD0/AIN0 (io), 14 PD1/AIN1 (io), 15 PD2/AIN2 (io), 16 PD3/AIN3 (io), 17 PD4/AIN4 (io), 18 PD5/AIN5 (io), 19 PD6/AIN6 (io), 20 PD7/AIN7 (io), 21 VAREF (in), 22 VSSA (power), 23 VDD_3 (power), 24 VSS_3 (power), 25 PF0/MCO/AIN8 (io), 26 PF1 (HS)/BEEP (io), 27 PF2 (HS) (io), 28 PF3/OCMP2_A/AIN9 (io), 29 PF4/OCMP1_A/AIN10 (io), 30 PF5/ICAP2_A/AIN11 (io), 31 PF6 (HS)/ICAP1_A (io), 32 PF7 (HS)/EXTCLK_A (io), 33 VDD_0 (power), 34 VSS_0 (power), 35 PC0/OCMP2_B/AIN12 (io), 36 PC1/OCMP1_B/AIN13 (io), 37 PC2 (HS)/ICAP2_B (io), 38 PC3 (HS)/ICAP1_B (io), 39 PC4/MISO/ICCDATA (io), 40 PC5/MOSI/AIN14 (io), 41 PC6/SCK/ICCCLK (io), 42 PC7/~{SS}/AIN15 (io), 43 PA0 (io), 44 PA1 (io), 45 PA2 (io), 46 PA3 (HS) (io), 47 VDD_1 (power), 48 VSS_1 (power), 49 PA4 (HS) (io), 50 PA5 (HS) (io), 51 PA6 (HS)/SDAI (io), 52 PA7 (HS)/SCLI (io), 53 VPP/ICCSEL (in), 54 ~{RESET} (io), 55 EVD, 56 TLI (in), 57 VSS_2 (power), 58 OSC2 (out), 59 OSC1 (in), 60 VDD_2 (power), 61 PE0/TDO (io), 62 PE1/RDI (io), 63 PE2/CANTX (io), 64 PE3/CANRX (io)

## ST72F521R9T6
designator U?
8-Bit 60k FLASH MCU with Nested Interrupts, 2048b RAM, 10-Bit ADC, Five Timers, SPI, SCI, I²C and CAN Interfaces, 64-Pin TQFP, Standard; Note: Pins 5-12, 25-27 and 43-46 are External Interrupt (EI) pins.; Published: 26-May-2004; LatestRevisionDate: 13-Apr-2006; LatestRevisionNote: IPC-7351 Footprint Added.; DatasheetVersion: rev1.9, Aug-2003; PackageVersion: rev2.4, Jan-2002; PackageReference: TQFP64-0.8; Publisher: Altium Limited; PackageDescription: 64-Pin Thin Quad Flat Pack 0.8 mm Pitch; ComponentLink1Description: Manufacturer Link; ComponentLink1URL: http://www.st.com/; ComponentLink2Description: Datasheet; ComponentLink2URL: http://www.st.com/stonline/products/literature/ds/7601/st72521b.pdf
footprint TQFP64-0.8_N (Thin QFP, 64-Leads, Body 14x14mm, Pitch 0.8mm, IPC Medium Density)
footprint TQFP64-0.8_L (Thin QFP, 64-Leads, Body 14x14mm, Pitch 0.8mm, IPC High Density)
footprint TQFP64-0.8_M (Thin QFP, 64-Leads, Body 14x14mm, Pitch 0.8mm, IPC Low Density)
3D model ST72F521-TQFP64-0_8 (64-Pin Thin Quad Flat Pack 0.8 mm Pitch)
pins: 1 PE4 (HS) (io), 2 PE5 (HS) (io), 3 PE6 (HS) (io), 4 PE7 (HS) (io), 5 PB0/PWM3 (io), 6 PB1/PWM2 (io), 7 PB2/PWM1 (io), 8 PB3/PWM0 (io), 9 PB4 (HS)/ARTCLK (io), 10 PB5/ARTIC1 (io), 11 PB6/ARTIC2 (io), 12 PB7 (io), 13 PD0/AIN0 (io), 14 PD1/AIN1 (io), 15 PD2/AIN2 (io), 16 PD3/AIN3 (io), 17 PD4/AIN4 (io), 18 PD5/AIN5 (io), 19 PD6/AIN6 (io), 20 PD7/AIN7 (io), 21 VAREF (in), 22 VSSA (power), 23 VDD_3 (power), 24 VSS_3 (power), 25 PF0/MCO/AIN8 (io), 26 PF1 (HS)/BEEP (io), 27 PF2 (HS) (io), 28 PF3/OCMP2_A/AIN9 (io), 29 PF4/OCMP1_A/AIN10 (io), 30 PF5/ICAP2_A/AIN11 (io), 31 PF6 (HS)/ICAP1_A (io), 32 PF7 (HS)/EXTCLK_A (io), 33 VDD_0 (power), 34 VSS_0 (power), 35 PC0/OCMP2_B/AIN12 (io), 36 PC1/OCMP1_B/AIN13 (io), 37 PC2 (HS)/ICAP2_B (io), 38 PC3 (HS)/ICAP1_B (io), 39 PC4/MISO/ICCDATA (io), 40 PC5/MOSI/AIN14 (io), 41 PC6/SCK/ICCCLK (io), 42 PC7/~{SS}/AIN15 (io), 43 PA0 (io), 44 PA1 (io), 45 PA2 (io), 46 PA3 (HS) (io), 47 VDD_1 (power), 48 VSS_1 (power), 49 PA4 (HS) (io), 50 PA5 (HS) (io), 51 PA6 (HS)/SDAI (io), 52 PA7 (HS)/SCLI (io), 53 VPP/ICCSEL (in), 54 ~{RESET} (io), 55 EVD, 56 TLI (in), 57 VSS_2 (power), 58 OSC2 (out), 59 OSC1 (in), 60 VDD_2 (power), 61 PE0/TDO (io), 62 PE1/RDI (io), 63 PE2/CANTX (io), 64 PE3/CANRX (io)

## ST72F521R9TC
designator U?
8-Bit 60k FLASH MCU with Nested Interrupts, 2048b RAM, 10-Bit ADC, Five Timers, SPI, SCI, I²C and CAN Interfaces, 64-Pin TQFP, Automotive; Note: Pins 5-12, 25-27 and 43-46 are External Interrupt (EI) pins.; Published: 26-May-2004; LatestRevisionDate: 13-Apr-2006; LatestRevisionNote: IPC-7351 Footprint Added.; DatasheetVersion: rev1.9, Aug-2003; PackageVersion: rev2.4, Jan-2002; PackageReference: TQFP64-0.8; Publisher: Altium Limited; PackageDescription: 64-Pin Thin Quad Flat Pack 0.8 mm Pitch; ComponentLink1Description: Manufacturer Link; ComponentLink1URL: http://www.st.com/; ComponentLink2Description: Datasheet; ComponentLink2URL: http://www.st.com/stonline/products/literature/ds/7601/st72521b.pdf
footprint TQFP64-0.8_N (Thin QFP, 64-Leads, Body 14x14mm, Pitch 0.8mm, IPC Medium Density)
footprint TQFP64-0.8_L (Thin QFP, 64-Leads, Body 14x14mm, Pitch 0.8mm, IPC High Density)
footprint TQFP64-0.8_M (Thin QFP, 64-Leads, Body 14x14mm, Pitch 0.8mm, IPC Low Density)
3D model ST72F521-TQFP64-0_8 (64-Pin Thin Quad Flat Pack 0.8 mm Pitch)
pins: 1 PE4 (HS) (io), 2 PE5 (HS) (io), 3 PE6 (HS) (io), 4 PE7 (HS) (io), 5 PB0/PWM3 (io), 6 PB1/PWM2 (io), 7 PB2/PWM1 (io), 8 PB3/PWM0 (io), 9 PB4 (HS)/ARTCLK (io), 10 PB5/ARTIC1 (io), 11 PB6/ARTIC2 (io), 12 PB7 (io), 13 PD0/AIN0 (io), 14 PD1/AIN1 (io), 15 PD2/AIN2 (io), 16 PD3/AIN3 (io), 17 PD4/AIN4 (io), 18 PD5/AIN5 (io), 19 PD6/AIN6 (io), 20 PD7/AIN7 (io), 21 VAREF (in), 22 VSSA (power), 23 VDD_3 (power), 24 VSS_3 (power), 25 PF0/MCO/AIN8 (io), 26 PF1 (HS)/BEEP (io), 27 PF2 (HS) (io), 28 PF3/OCMP2_A/AIN9 (io), 29 PF4/OCMP1_A/AIN10 (io), 30 PF5/ICAP2_A/AIN11 (io), 31 PF6 (HS)/ICAP1_A (io), 32 PF7 (HS)/EXTCLK_A (io), 33 VDD_0 (power), 34 VSS_0 (power), 35 PC0/OCMP2_B/AIN12 (io), 36 PC1/OCMP1_B/AIN13 (io), 37 PC2 (HS)/ICAP2_B (io), 38 PC3 (HS)/ICAP1_B (io), 39 PC4/MISO/ICCDATA (io), 40 PC5/MOSI/AIN14 (io), 41 PC6/SCK/ICCCLK (io), 42 PC7/~{SS}/AIN15 (io), 43 PA0 (io), 44 PA1 (io), 45 PA2 (io), 46 PA3 (HS) (io), 47 VDD_1 (power), 48 VSS_1 (power), 49 PA4 (HS) (io), 50 PA5 (HS) (io), 51 PA6 (HS)/SDAI (io), 52 PA7 (HS)/SCLI (io), 53 VPP/ICCSEL (in), 54 ~{RESET} (io), 55 EVD, 56 TLI (in), 57 VSS_2 (power), 58 OSC2 (out), 59 OSC1 (in), 60 VDD_2 (power), 61 PE0/TDO (io), 62 PE1/RDI (io), 63 PE2/CANTX (io), 64 PE3/CANRX (io)

## ST72F621J2B1
designator U?
8-Bit MCU with 8k FLASH, 384b RAM, Low Speed USB, LVD, WDG, 10-Bit ADC, Two Timers, SCI and SPI, 42-Pin PDIP; Published: 26-May-2004; LatestRevisionDate: 06-Jun-2005; LatestRevisionNote: Stylized 3D Model Added.; DatasheetVersion: rev2.3, Oct-2003; PackageVersion: Oct-2003; PackageReference: PSDIP42; Publisher: Altium Limited; PackageDescription: DIP, Plastic Shrink; 42 Leads; Row Spacing 15.24 mm; Pitch 1.78 mm; ComponentLink1Description: Manufacturer Link; ComponentLink1URL: http://www.st.com/; ComponentLink2Description: Datasheet; ComponentLink2URL: http://www.st.com/stonline/products/literature/ds/6996/st72621j2.pdf
footprint PSDIP42 (DIP, Plastic Shrink; 42 Leads; Row Spacing 15.24 mm; Pitch 1.78 mm)
3D model PSDIP42 (DIP, Plastic Shrink; 42 Leads; Row Spacing 15.24 mm; Pitch 1.78 mm)
pins: 1 PD6 (io), 2 PD5 (io), 3 PD4 (io), 4 PD3 (io), 5 PD2 (io), 6 VPP (power), 7 PD1 (io), 8 PD0 (io), 9 PC7 (io), 10 PC6/MOSI (io), 11 PC5/MISO/IT12 (io), 12 PC4/~{SS}/IT11 (io), 13 PC3/SCK/IT10 (io), 14 PC2/IT9 (io), 15 OSCIN (in), 16 OSCOUT (out), 17 VSS (power), 18 VDD (power), 19 PC1 (io), 20 PC0 (io), 21 PB7 (HS)/PWM1/IT8 (io), 22 PB6 (HS)/PWM0/IT7/ICCDATA (io), 23 PB5 (HS)/ARTIC2/IT6/ICCCLK (io), 24 PB4 (HS)/ARTIC1/IT5 (io), 25 PB3 (HS)/ARTCLK (io), 26 PB2 (HS)/TDO (io), 27 PB1 (HS)/RDI (io), 28 PB0 (HS)/MCO (io), 29 PA7/AIN7 (io), 30 PA6/AIN6 (io), 31 PA5/AIN5 (io), 32 PA4/AIN4 (io), 33 PA3/AIN3/IT4 (io), 34 PA2/AIN2/IT3 (io), 35 PA1/AIN1/IT2 (io), 36 PA0/AIN0/IT1/USBOE (io), 37 ~{RESET} (io), 38 VSSA (power), 39 USBDM (io), 40 USBDP (io), 41 USBVCC (power), 42 VDDA (power)

## ST72F621J2T1
designator U?
8-Bit MCU with 8k FLASH, 384b RAM, Low Speed USB, LVD, WDG, 10-Bit ADC, Two Timers, SCI and SPI, 44-Pin TQFP; Published: 26-May-2004; LatestRevisionDate: 13-Apr-2006; LatestRevisionNote: IPC-7351 Footprint Added.; DatasheetVersion: rev2.3, Oct-2003; PackageVersion: Oct-2003; PackageReference: TQFP44; Publisher: Altium Limited; PackageDescription: 44-Pin Thin Plastic Quad Flat Pack 0.8 mm Pitch; ComponentLink1Description: Manufacturer Link; ComponentLink1URL: http://www.st.com/; ComponentLink2Description: Datasheet; ComponentLink2URL: http://www.st.com/stonline/products/literature/ds/6996/st72621j2.pdf
footprint TQFP44_N (Thin QFP, 44-Leads, Body 10x10mm, Pitch 0.8mm, IPC Medium Density)
footprint TQFP44_L (Thin QFP, 44-Leads, Body 10x10mm, Pitch 0.8mm, IPC High Density)
footprint TQFP44_M (Thin QFP, 44-Leads, Body 10x10mm, Pitch 0.8mm, IPC Low Density)
3D model ST72F621-TQFP44 (44-Pin Thin Plastic Quad Flat Pack 0.8 mm Pitch)
pins: 1 VPP (power), 2 PD1 (io), 3 PD0 (io), 4 PC7 (io), 5 PC6/MOSI (io), 6 PC5/MISO/IT12 (io), 7 PC4/~{SS}/IT11 (io), 8 PC3/SCK/IT10 (io), 9 PC2/IT9 (io), 10 OSCIN (in), 11 OSCOUT (out), 12 VSS (power), 13 VDD (power), 14 PC1 (io), 15 PC0 (io), 16 PB7 (HS)/PWM1/IT8 (io), 17 NC, 18 PB6 (HS)/PWM0/IT7/ICCDATA (io), 19 PB5 (HS)/ARTIC2/IT6/ICCCLK (io), 20 PB4 (HS)/ARTIC1/IT5 (io), 21 PB3 (HS)/ARTCLK (io), 22 PB2 (HS)/TDO (io), 23 PB1 (HS)/RDI (io), 24 PB0 (HS)/MCO (io), 25 PA7/AIN7 (io), 26 PA6/AIN6 (io), 27 PA5/AIN5 (io), 28 PA4/AIN4 (io), 29 PA3/AIN3/IT4 (io), 30 PA2/AIN2/IT3 (io), 31 PA1/AIN1/IT2 (io), 32 PA0/AIN0/IT1/USBOE (io), 33 ~{RESET} (io), 34 VSSA (power), 35 USBDM (io), 36 USBDP (io), 37 USBVCC (power), 38 VDDA (power), 39 Reserved, 40 PD6 (io), 41 PD5 (io), 42 PD4 (io), 43 PD3 (io), 44 PD2 (io)

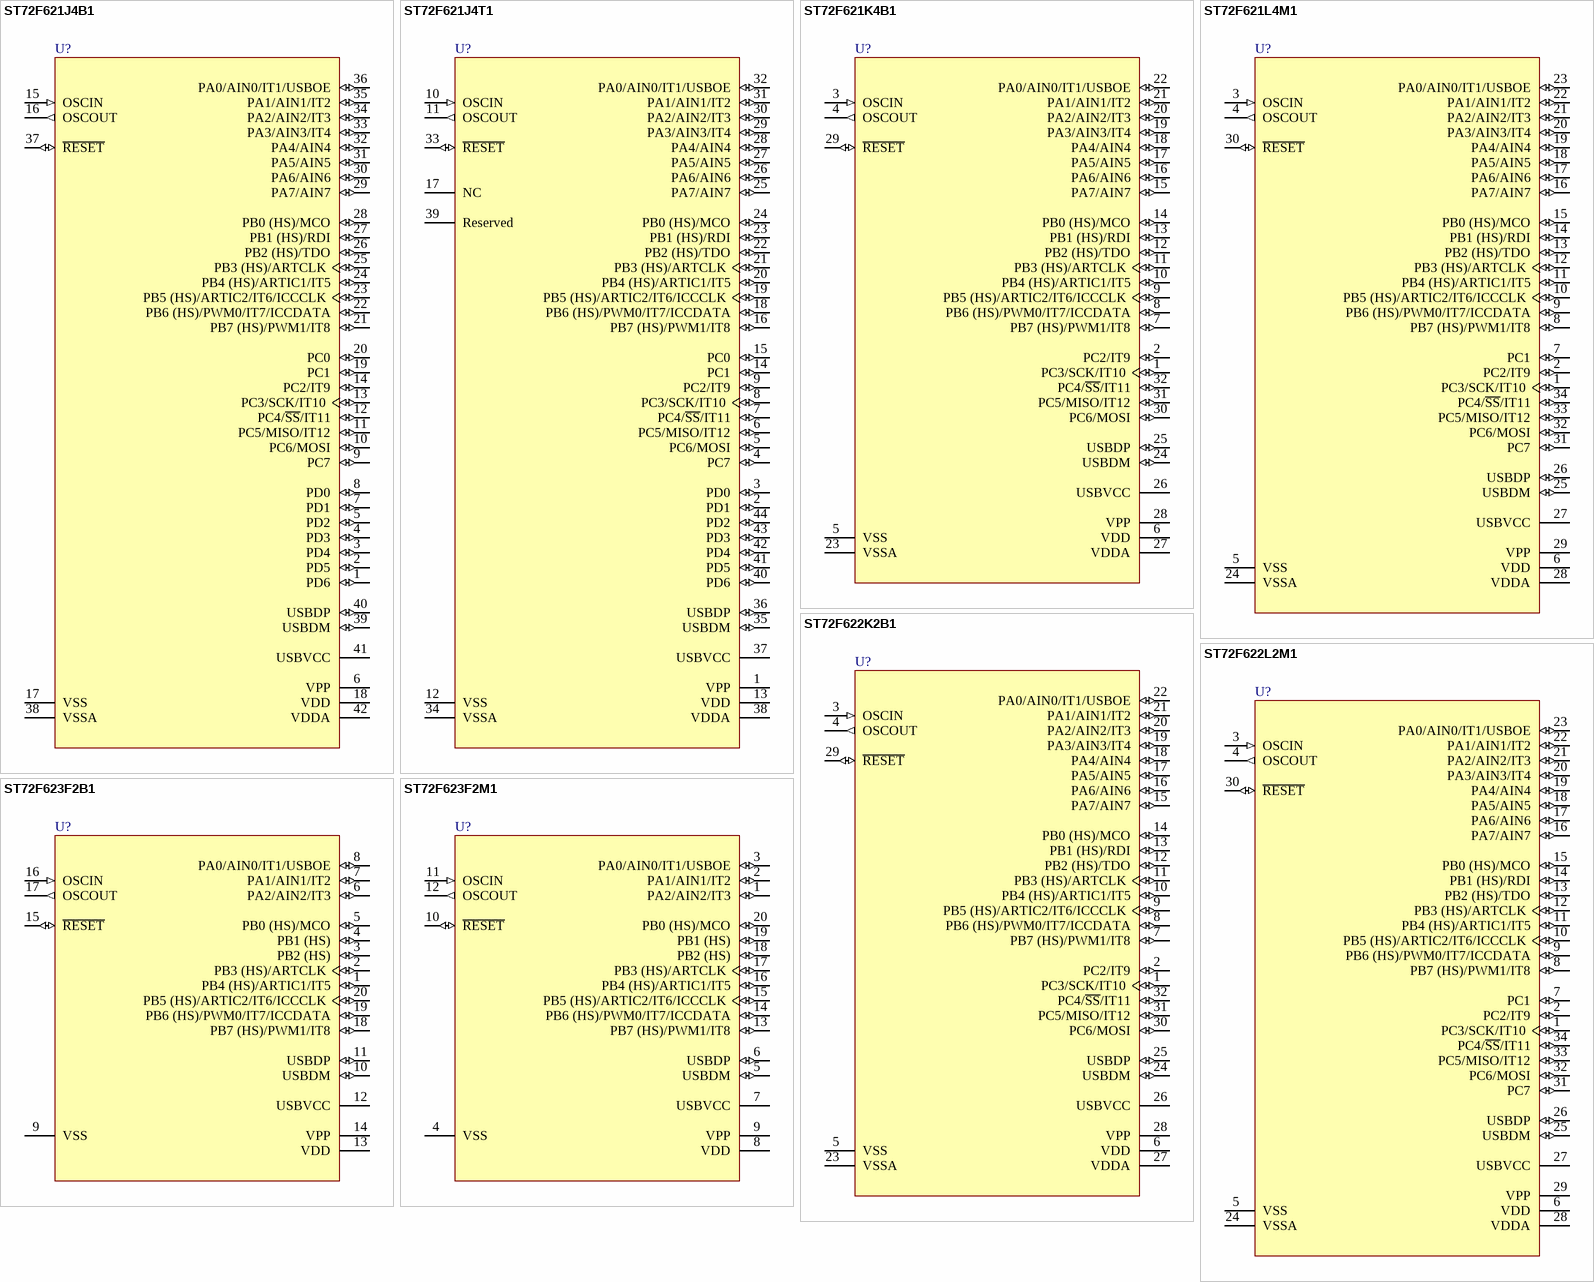
[diagram p44: symbols ST72F621J4B1 to ST72F623F2M1]

## ST72F621J4B1
designator U?
8-Bit MCU with 16k FLASH, 768b RAM, Low Speed USB, LVD, WDG, 10-Bit ADC, Two Timers, SCI and SPI, 42-Pin PDIP; Published: 26-May-2004; LatestRevisionDate: 06-Jun-2005; LatestRevisionNote: Stylized 3D Model Added.; DatasheetVersion: rev2.3, Oct-2003; PackageVersion: Oct-2003; PackageReference: PSDIP42; Publisher: Altium Limited; PackageDescription: DIP, Plastic Shrink; 42 Leads; Row Spacing 15.24 mm; Pitch 1.78 mm; ComponentLink1Description: Manufacturer Link; ComponentLink1URL: http://www.st.com/; ComponentLink2Description: Datasheet; ComponentLink2URL: http://www.st.com/stonline/products/literature/ds/6996/st72621j4.pdf
footprint PSDIP42 (DIP, Plastic Shrink; 42 Leads; Row Spacing 15.24 mm; Pitch 1.78 mm)
3D model PSDIP42 (DIP, Plastic Shrink; 42 Leads; Row Spacing 15.24 mm; Pitch 1.78 mm)
pins: 1 PD6 (io), 2 PD5 (io), 3 PD4 (io), 4 PD3 (io), 5 PD2 (io), 6 VPP (power), 7 PD1 (io), 8 PD0 (io), 9 PC7 (io), 10 PC6/MOSI (io), 11 PC5/MISO/IT12 (io), 12 PC4/~{SS}/IT11 (io), 13 PC3/SCK/IT10 (io), 14 PC2/IT9 (io), 15 OSCIN (in), 16 OSCOUT (out), 17 VSS (power), 18 VDD (power), 19 PC1 (io), 20 PC0 (io), 21 PB7 (HS)/PWM1/IT8 (io), 22 PB6 (HS)/PWM0/IT7/ICCDATA (io), 23 PB5 (HS)/ARTIC2/IT6/ICCCLK (io), 24 PB4 (HS)/ARTIC1/IT5 (io), 25 PB3 (HS)/ARTCLK (io), 26 PB2 (HS)/TDO (io), 27 PB1 (HS)/RDI (io), 28 PB0 (HS)/MCO (io), 29 PA7/AIN7 (io), 30 PA6/AIN6 (io), 31 PA5/AIN5 (io), 32 PA4/AIN4 (io), 33 PA3/AIN3/IT4 (io), 34 PA2/AIN2/IT3 (io), 35 PA1/AIN1/IT2 (io), 36 PA0/AIN0/IT1/USBOE (io), 37 ~{RESET} (io), 38 VSSA (power), 39 USBDM (io), 40 USBDP (io), 41 USBVCC (power), 42 VDDA (power)

## ST72F621J4T1
designator U?
8-Bit MCU with 16k FLASH, 768b RAM, Low Speed USB, LVD, WDG, 10-Bit ADC, Two Timers, SCI and SPI, 44-Pin TQFP; Published: 26-May-2004; LatestRevisionDate: 13-Apr-2006; LatestRevisionNote: IPC-7351 Footprint Added.; DatasheetVersion: rev2.3, Oct-2003; PackageVersion: Oct-2003; PackageReference: TQFP44; Publisher: Altium Limited; PackageDescription: 44-Pin Thin Plastic Quad Flat Pack 0.8 mm Pitch; ComponentLink1Description: Manufacturer Link; ComponentLink1URL: http://www.st.com/; ComponentLink2Description: Datasheet; ComponentLink2URL: http://www.st.com/stonline/products/literature/ds/6996/st72621j4.pdf
footprint TQFP44_N (Thin QFP, 44-Leads, Body 10x10mm, Pitch 0.8mm, IPC Medium Density)
footprint TQFP44_L (Thin QFP, 44-Leads, Body 10x10mm, Pitch 0.8mm, IPC High Density)
footprint TQFP44_M (Thin QFP, 44-Leads, Body 10x10mm, Pitch 0.8mm, IPC Low Density)
3D model ST72F621-TQFP44 (44-Pin Thin Plastic Quad Flat Pack 0.8 mm Pitch)
pins: 1 VPP (power), 2 PD1 (io), 3 PD0 (io), 4 PC7 (io), 5 PC6/MOSI (io), 6 PC5/MISO/IT12 (io), 7 PC4/~{SS}/IT11 (io), 8 PC3/SCK/IT10 (io), 9 PC2/IT9 (io), 10 OSCIN (in), 11 OSCOUT (out), 12 VSS (power), 13 VDD (power), 14 PC1 (io), 15 PC0 (io), 16 PB7 (HS)/PWM1/IT8 (io), 17 NC, 18 PB6 (HS)/PWM0/IT7/ICCDATA (io), 19 PB5 (HS)/ARTIC2/IT6/ICCCLK (io), 20 PB4 (HS)/ARTIC1/IT5 (io), 21 PB3 (HS)/ARTCLK (io), 22 PB2 (HS)/TDO (io), 23 PB1 (HS)/RDI (io), 24 PB0 (HS)/MCO (io), 25 PA7/AIN7 (io), 26 PA6/AIN6 (io), 27 PA5/AIN5 (io), 28 PA4/AIN4 (io), 29 PA3/AIN3/IT4 (io), 30 PA2/AIN2/IT3 (io), 31 PA1/AIN1/IT2 (io), 32 PA0/AIN0/IT1/USBOE (io), 33 ~{RESET} (io), 34 VSSA (power), 35 USBDM (io), 36 USBDP (io), 37 USBVCC (power), 38 VDDA (power), 39 Reserved, 40 PD6 (io), 41 PD5 (io), 42 PD4 (io), 43 PD3 (io), 44 PD2 (io)

## ST72F621K4B1
designator U?
8-Bit MCU with 16k FLASH, 768b RAM, Low Speed USB, LVD, WDG, 10-Bit ADC, Two Timers, SCI and SPI, 32-Pin PDIP; Published: 26-May-2004; LatestRevisionDate: 06-Jun-2005; LatestRevisionNote: Stylized 3D Model Added.; DatasheetVersion: rev2.3, Oct-2003; PackageVersion: rev1.7, Oct-2001; PackageReference: PSDIP32; Publisher: Altium Limited; PackageDescription: DIP, Plastic Shrink; 32 Leads; Row Spacing 10.16 mm; Pitch 1.78 mm; ComponentLink1Description: Manufacturer Link; ComponentLink1URL: http://www.st.com/; ComponentLink2Description: Datasheet; ComponentLink2URL: http://www.st.com/stonline/products/literature/ds/6996/st72621k4.pdf
footprint PSDIP32 (DIP, Plastic Shrink; 32 Leads; Row Spacing 10.16 mm; Pitch 1.78 mm)
3D model PSDIP32 (DIP, Plastic Shrink; 32 Leads; Row Spacing 10.16 mm; Pitch 1.78 mm)
pins: 1 PC3/SCK/IT10 (io), 2 PC2/IT9 (io), 3 OSCIN (in), 4 OSCOUT (out), 5 VSS (power), 6 VDD (power), 7 PB7 (HS)/PWM1/IT8 (io), 8 PB6 (HS)/PWM0/IT7/ICCDATA (io), 9 PB5 (HS)/ARTIC2/IT6/ICCCLK (io), 10 PB4 (HS)/ARTIC1/IT5 (io), 11 PB3 (HS)/ARTCLK (io), 12 PB2 (HS)/TDO (io), 13 PB1 (HS)/RDI (io), 14 PB0 (HS)/MCO (io), 15 PA7/AIN7 (io), 16 PA6/AIN6 (io), 17 PA5/AIN5 (io), 18 PA4/AIN4 (io), 19 PA3/AIN3/IT4 (io), 20 PA2/AIN2/IT3 (io), 21 PA1/AIN1/IT2 (io), 22 PA0/AIN0/IT1/USBOE (io), 23 VSSA (power), 24 USBDM (io), 25 USBDP (io), 26 USBVCC (power), 27 VDDA (power), 28 VPP (power), 29 ~{RESET} (io), 30 PC6/MOSI (io), 31 PC5/MISO/IT12 (io), 32 PC4/~{SS}/IT11 (io)

## ST72F621L4M1
designator U?
8-Bit MCU with 16k FLASH, 768b RAM, Low Speed USB, LVD, WDG, 10-Bit ADC, Two Timers, SCI and SPI, 34-Pin SOIC; Published: 26-May-2004; LatestRevisionDate: 13-Apr-2006; LatestRevisionNote: IPC-7351 Footprint Added.; DatasheetVersion: rev2.3, Oct-2003; PackageVersion: rev1.7, Oct-2001; PackageReference: SO34S; Publisher: Altium Limited; PackageDescription: 34-Pin Small Outline Package 1.02 mm Pitch; ComponentLink1Description: Manufacturer Link; ComponentLink1URL: http://www.st.com/; ComponentLink2Description: Datasheet; ComponentLink2URL: http://www.st.com/stonline/products/literature/ds/6996/st72621l4.pdf
footprint SO34S_N (SOP, 34-Leads, Body 17.9x7.51mm, Pitch 1.02mm, IPC Medium Density)
footprint SO34S_L (SOP, 34-Leads, Body 17.9x7.51mm, Pitch 1.02mm, IPC High Density)
footprint SO34S_M (SOP, 34-Leads, Body 17.9x7.51mm, Pitch 1.02mm, IPC Low Density)
3D model SO34S (34-Pin Small Outline Package 1.02 mm Pitch)
pins: 1 PC3/SCK/IT10 (io), 2 PC2/IT9 (io), 3 OSCIN (in), 4 OSCOUT (out), 5 VSS (power), 6 VDD (power), 7 PC1 (io), 8 PB7 (HS)/PWM1/IT8 (io), 9 PB6 (HS)/PWM0/IT7/ICCDATA (io), 10 PB5 (HS)/ARTIC2/IT6/ICCCLK (io), 11 PB4 (HS)/ARTIC1/IT5 (io), 12 PB3 (HS)/ARTCLK (io), 13 PB2 (HS)/TDO (io), 14 PB1 (HS)/RDI (io), 15 PB0 (HS)/MCO (io), 16 PA7/AIN7 (io), 17 PA6/AIN6 (io), 18 PA5/AIN5 (io), 19 PA4/AIN4 (io), 20 PA3/AIN3/IT4 (io), 21 PA2/AIN2/IT3 (io), 22 PA1/AIN1/IT2 (io), 23 PA0/AIN0/IT1/USBOE (io), 24 VSSA (power), 25 USBDM (io), 26 USBDP (io), 27 USBVCC (power), 28 VDDA (power), 29 VPP (power), 30 ~{RESET} (io), 31 PC7 (io), 32 PC6/MOSI (io), 33 PC5/MISO/IT12 (io), 34 PC4/~{SS}/IT11 (io)